# Altium integrated library ST Microcontroller 8-Bit.IntLib: 1326 symbols (part 19 of 31)
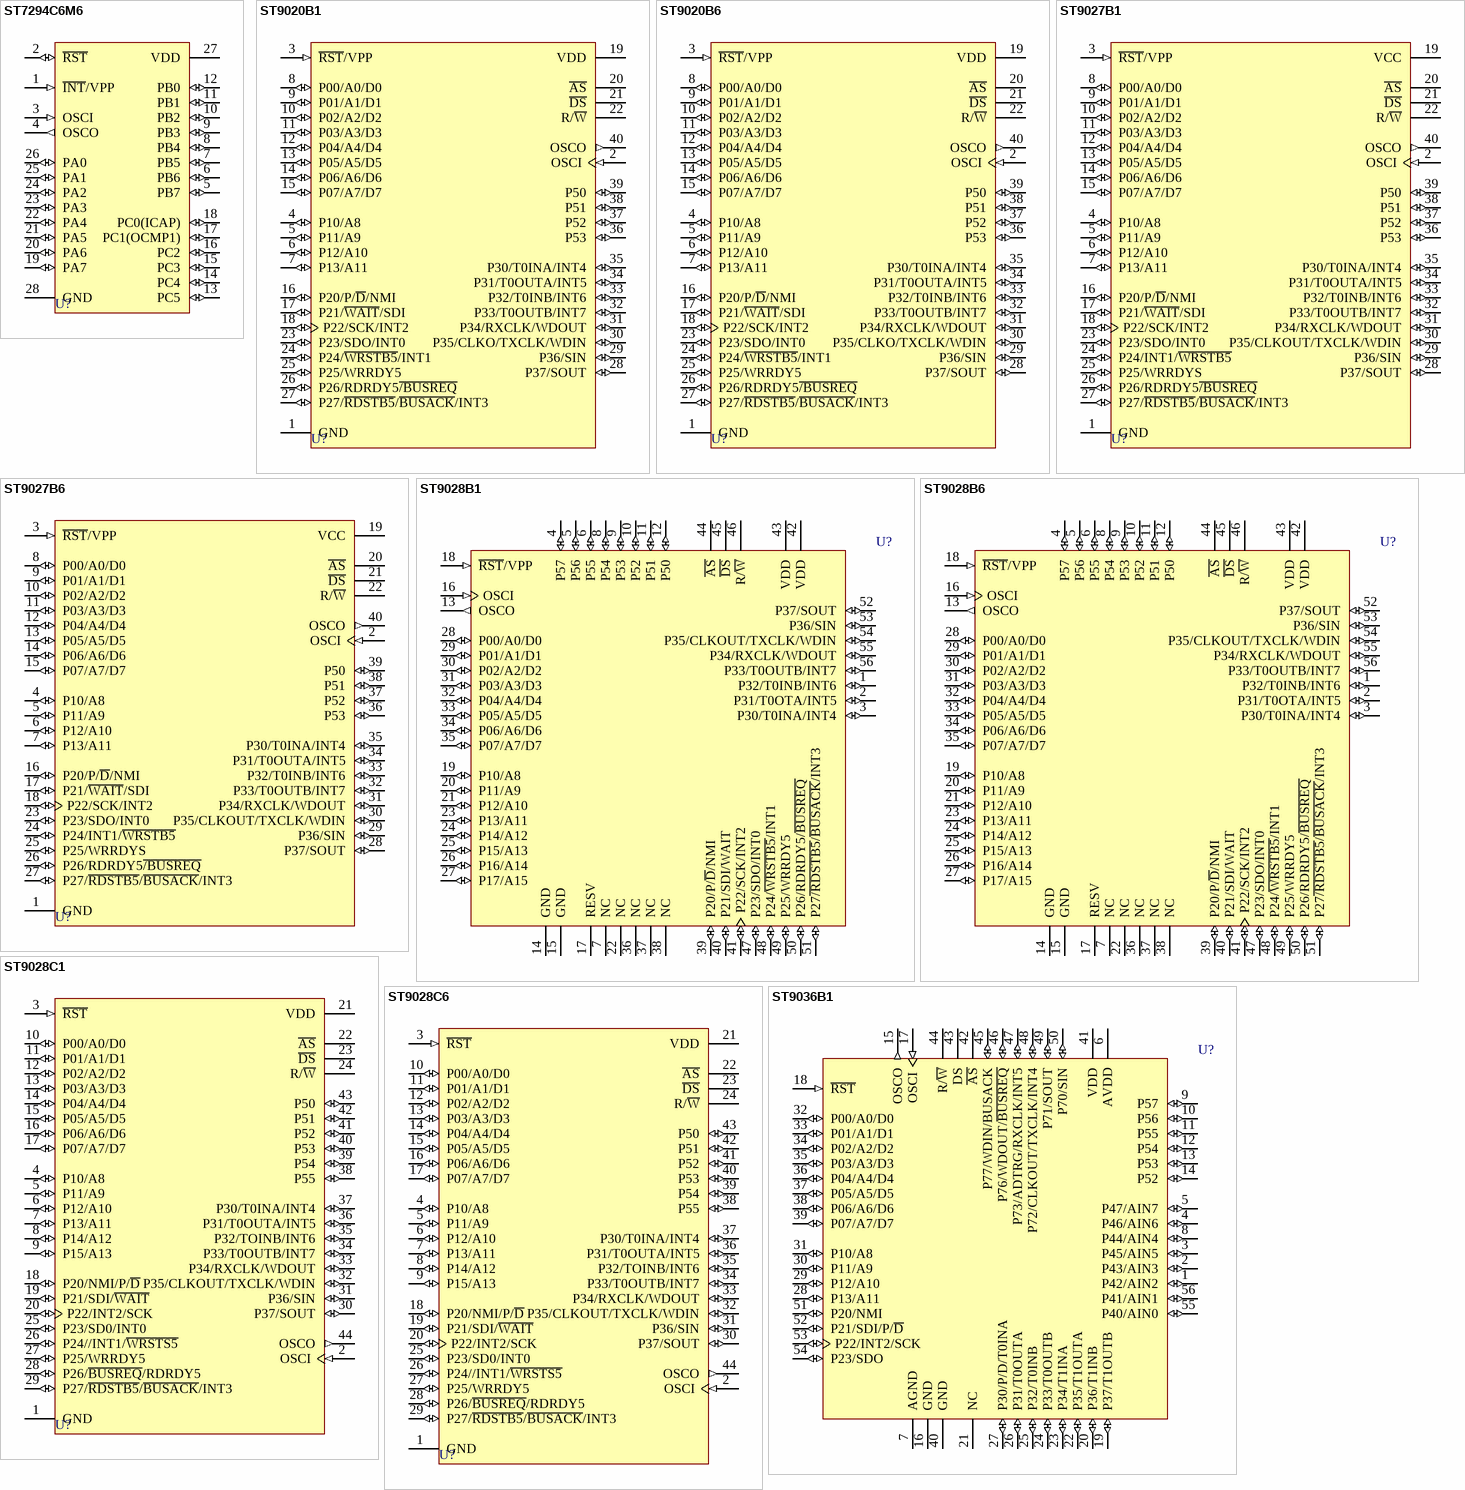
[diagram p185: symbols ST7294C6M6 to ST9036B1]

## ST9020B1
designator U?
12/16K ROM HCMOS MCU; Published: 24-Aug-2001; LatestRevisionDate: 17-Jul-2002; LatestRevisionNote: Re-released for DXP Platform.; DatasheetDocument: Jan-1995; PackageDocument: Jun-1998; PackageReference: PDIP40; Publisher: Altium Limited
footprint PDIP40 (DIP, Plastic; 40 Leads; Row Spacing 15.24 mm; Pitch 2.54 mm)
pins: 1 GND (power), 2 OSCI (in), 3 ~{RST}/VPP (in), 4 P10/A8 (io), 5 P11/A9 (io), 6 P12/A10 (io), 7 P13/A11 (io), 8 P00/A0/D0 (io), 9 P01/A1/D1 (io), 10 P02/A2/D2 (io), 11 P03/A3/D3 (io), 12 P04/A4/D4 (io), 13 P05/A5/D5 (io), 14 P06/A6/D6 (io), 15 P07/A7/D7 (io), 16 P20/P/~{D}/NMI (io), 17 P21/~{WAIT}/SDI (io), 18 P22/SCK/INT2 (io), 19 VDD (power), 20 ~{AS} (hiz), 21 ~{DS} (hiz), 22 R/~{W} (hiz), 23 P23/SDO/INT0 (io), 24 P24/~{WRSTB5}/INT1 (io), 25 P25/WRRDY5 (io), 26 P26/RDRDY5~{/BUSREQ} (io), 27 P27/~{RDSTB5}/~{BUSACK}/INT3 (io), 28 P37/SOUT (io), 29 P36/SIN (io), 30 P35/CLKO/TXCLK/WDIN (io), 31 P34/RXCLK/WDOUT (io), 32 P33/T0OUTB/INT7 (io), 33 P32/T0INB/INT6 (io), 34 P31/T0OUTA/INT5 (io), 35 P30/T0INA/INT4 (io), 36 P53 (io), 37 P52 (io), 38 P51 (io), 39 P50 (io), 40 OSCO (out)

## ST9020B6
designator U?
12/16K ROM HCMOS MCU; Published: 24-Aug-2001; LatestRevisionDate: 17-Jul-2002; LatestRevisionNote: Re-released for DXP Platform.; DatasheetDocument: Jan-1995; PackageDocument: Jun-1998; PackageReference: PDIP40; Publisher: Altium Limited
footprint PDIP40 (DIP, Plastic; 40 Leads; Row Spacing 15.24 mm; Pitch 2.54 mm)
pins: 1 GND (power), 2 OSCI (in), 3 ~{RST}/VPP (in), 4 P10/A8 (io), 5 P11/A9 (io), 6 P12/A10 (io), 7 P13/A11 (io), 8 P00/A0/D0 (io), 9 P01/A1/D1 (io), 10 P02/A2/D2 (io), 11 P03/A3/D3 (io), 12 P04/A4/D4 (io), 13 P05/A5/D5 (io), 14 P06/A6/D6 (io), 15 P07/A7/D7 (io), 16 P20/P/~{D}/NMI (io), 17 P21/~{WAIT}/SDI (io), 18 P22/SCK/INT2 (io), 19 VDD (power), 20 ~{AS} (hiz), 21 ~{DS} (hiz), 22 R/~{W} (hiz), 23 P23/SDO/INT0 (io), 24 P24/~{WRSTB5}/INT1 (io), 25 P25/WRRDY5 (io), 26 P26/RDRDY5~{/BUSREQ} (io), 27 P27/~{RDSTB5}/~{BUSACK}/INT3 (io), 28 P37/SOUT (io), 29 P36/SIN (io), 30 P35/CLKO/TXCLK/WDIN (io), 31 P34/RXCLK/WDOUT (io), 32 P33/T0OUTB/INT7 (io), 33 P32/T0INB/INT6 (io), 34 P31/T0OUTA/INT5 (io), 35 P30/T0INA/INT4 (io), 36 P53 (io), 37 P52 (io), 38 P51 (io), 39 P50 (io), 40 OSCO (out)

## ST9027B1
designator U?
16K ROM /256 RAM HCMOS MCU; Published: 24-Aug-2001; LatestRevisionDate: 17-Jul-2002; LatestRevisionNote: Re-released for DXP Platform.; DatasheetDocument: Feb-1997; PackageDocument: Jun-1998; PackageReference: PDIP40; Publisher: Altium Limited
footprint PDIP40 (DIP, Plastic; 40 Leads; Row Spacing 15.24 mm; Pitch 2.54 mm)
pins: 1 GND (power), 2 OSCI (in), 3 ~{RST}/VPP (in), 4 P10/A8 (io), 5 P11/A9 (io), 6 P12/A10 (io), 7 P13/A11 (io), 8 P00/A0/D0 (io), 9 P01/A1/D1 (io), 10 P02/A2/D2 (io), 11 P03/A3/D3 (io), 12 P04/A4/D4 (io), 13 P05/A5/D5 (io), 14 P06/A6/D6 (io), 15 P07/A7/D7 (io), 16 P20/P/~{D}/NMI (io), 17 P21/~{WAIT}/SDI (io), 18 P22/SCK/INT2 (io), 19 VCC (power), 20 ~{AS} (hiz), 21 ~{DS} (hiz), 22 R/~{W} (hiz), 23 P23/SDO/INT0 (io), 24 P24/INT1/~{WRSTB5} (io), 25 P25/WRRDYS (io), 26 P26/RDRDY5~{/BUSREQ} (io), 27 P27/~{RDSTB5}/~{BUSACK}/INT3 (io), 28 P37/SOUT (io), 29 P36/SIN (io), 30 P35/CLKOUT/TXCLK/WDIN (io), 31 P34/RXCLK/WDOUT (io), 32 P33/T0OUTB/INT7 (io), 33 P32/T0INB/INT6 (io), 34 P31/T0OUTA/INT5 (io), 35 P30/T0INA/INT4 (io), 36 P53 (io), 37 P52 (io), 38 P51 (io), 39 P50 (io), 40 OSCO (out)

## ST9027B6
designator U?
16K ROM /256 RAM HCMOS MCU; Published: 24-Aug-2001; LatestRevisionDate: 17-Jul-2002; LatestRevisionNote: Re-released for DXP Platform.; DatasheetDocument: Feb-1997; PackageDocument: Jun-1998; PackageReference: PDIP40; Publisher: Altium Limited
footprint PDIP40 (DIP, Plastic; 40 Leads; Row Spacing 15.24 mm; Pitch 2.54 mm)
pins: 1 GND (power), 2 OSCI (in), 3 ~{RST}/VPP (in), 4 P10/A8 (io), 5 P11/A9 (io), 6 P12/A10 (io), 7 P13/A11 (io), 8 P00/A0/D0 (io), 9 P01/A1/D1 (io), 10 P02/A2/D2 (io), 11 P03/A3/D3 (io), 12 P04/A4/D4 (io), 13 P05/A5/D5 (io), 14 P06/A6/D6 (io), 15 P07/A7/D7 (io), 16 P20/P/~{D}/NMI (io), 17 P21/~{WAIT}/SDI (io), 18 P22/SCK/INT2 (io), 19 VCC (power), 20 ~{AS} (hiz), 21 ~{DS} (hiz), 22 R/~{W} (hiz), 23 P23/SDO/INT0 (io), 24 P24/INT1/~{WRSTB5} (io), 25 P25/WRRDYS (io), 26 P26/RDRDY5~{/BUSREQ} (io), 27 P27/~{RDSTB5}/~{BUSACK}/INT3 (io), 28 P37/SOUT (io), 29 P36/SIN (io), 30 P35/CLKOUT/TXCLK/WDIN (io), 31 P34/RXCLK/WDOUT (io), 32 P33/T0OUTB/INT7 (io), 33 P32/T0INB/INT6 (io), 34 P31/T0OUTA/INT5 (io), 35 P30/T0INA/INT4 (io), 36 P53 (io), 37 P52 (io), 38 P51 (io), 39 P50 (io), 40 OSCO (out)

## ST9028B1
designator U?
16K ROM /256 RAM HCMOS MCU; Published: 24-Aug-2001; LatestRevisionDate: 26-May-2004; LatestRevisionNote: PCB row spacing reduced.; DatasheetDocument: Feb-1997; PackageDocument: Jan-2002; PackageReference: PSDIP56; Publisher: Altium Limited
footprint PSDIP56 (DIP, Plastic Shrink; 56 Leads; Row Spacing 15.24 mm; Pitch 1.78 mm)
pins: 1 P32/T0INB/INT6 (io), 2 P31/T0OTA/INT5 (io), 3 P30/T0INA/INT4 (io), 4 P57 (io), 5 P56 (io), 6 P55 (io), 7 NC, 8 P54 (io), 9 P53 (io), 10 P52 (io), 11 P51 (io), 12 P50 (io), 13 OSCO (out), 14 GND (power), 15 GND (power), 16 OSCI (in), 17 RESV, 18 ~{RST}/VPP (in), 19 P10/A8 (io), 20 P11/A9 (io), 21 P12/A10 (io), 22 NC, 23 P13/A11 (io), 24 P14/A12 (io), 25 P15/A13 (io), 26 P16/A14 (io), 27 P17/A15 (io), 28 P00/A0/D0 (io), 29 P01/A1/D1 (io), 30 P02/A2/D2 (io), 31 P03/A3/D3 (io), 32 P04/A4/D4 (io), 33 P05/A5/D5 (io), 34 P06/A6/D6 (io), 35 P07/A7/D7 (io), 36 NC, 37 NC, 38 NC, 39 P20/P/~{D}/NMI (io), 40 P21/SDI/WAIT (io), 41 P22/SCK/INT2 (io), 42 VDD (power), 43 VDD (power), 44 ~{AS} (hiz), 45 ~{DS} (hiz), 46 R/~{W} (hiz), 47 P23/SDO/INT0 (io), 48 P24/~{WRSTB5}/INT1 (io), 49 P25/WRRDY5 (io), 50 P26/RDRDY5/~{BUSREQ} (io), 51 P27~{/RDSTB5}/~{BUSACK}/INT3 (io), 52 P37/SOUT (io), 53 P36/SIN (io), 54 P35/CLKOUT/TXCLK/WDIN (io), 55 P34/RXCLK/WDOUT (io), 56 P33/T0OUTB/INT7 (io)

## ST9028B6
designator U?
16K ROM /256 RAM HCMOS MCU; Published: 24-Aug-2001; LatestRevisionDate: 26-May-2004; LatestRevisionNote: PCB row spacing reduced.; DatasheetDocument: Feb-1997; PackageDocument: Jan-2002; PackageReference: PSDIP56; Publisher: Altium Limited
footprint PSDIP56 (DIP, Plastic Shrink; 56 Leads; Row Spacing 15.24 mm; Pitch 1.78 mm)
pins: 1 P32/T0INB/INT6 (io), 2 P31/T0OTA/INT5 (io), 3 P30/T0INA/INT4 (io), 4 P57 (io), 5 P56 (io), 6 P55 (io), 7 NC, 8 P54 (io), 9 P53 (io), 10 P52 (io), 11 P51 (io), 12 P50 (io), 13 OSCO (out), 14 GND (power), 15 GND (power), 16 OSCI (in), 17 RESV, 18 ~{RST}/VPP (in), 19 P10/A8 (io), 20 P11/A9 (io), 21 P12/A10 (io), 22 NC, 23 P13/A11 (io), 24 P14/A12 (io), 25 P15/A13 (io), 26 P16/A14 (io), 27 P17/A15 (io), 28 P00/A0/D0 (io), 29 P01/A1/D1 (io), 30 P02/A2/D2 (io), 31 P03/A3/D3 (io), 32 P04/A4/D4 (io), 33 P05/A5/D5 (io), 34 P06/A6/D6 (io), 35 P07/A7/D7 (io), 36 NC, 37 NC, 38 NC, 39 P20/P/~{D}/NMI (io), 40 P21/SDI/WAIT (io), 41 P22/SCK/INT2 (io), 42 VDD (power), 43 VDD (power), 44 ~{AS} (hiz), 45 ~{DS} (hiz), 46 R/~{W} (hiz), 47 P23/SDO/INT0 (io), 48 P24/~{WRSTB5}/INT1 (io), 49 P25/WRRDY5 (io), 50 P26/RDRDY5/~{BUSREQ} (io), 51 P27~{/RDSTB5}/~{BUSACK}/INT3 (io), 52 P37/SOUT (io), 53 P36/SIN (io), 54 P35/CLKOUT/TXCLK/WDIN (io), 55 P34/RXCLK/WDOUT (io), 56 P33/T0OUTB/INT7 (io)

## ST9028C1
designator U?
16K ROM /256 RAM HCMOS MCU; Published: 24-Aug-2001; LatestRevisionDate: 17-Jul-2002; LatestRevisionNote: Re-released for DXP Platform.; DatasheetDocument: Feb-1997; PackageDocument: Jun-1998; PackageReference: PLCC44; Publisher: Altium Limited; Code_IPC: PLCC-44
footprint PLCC44 (Leaded Chip Carrier; 44 Leads; Body 16.5 x 16.5 mm)
pins: 1 GND (power), 2 OSCI (in), 3 ~{RST} (in), 4 P10/A8 (io), 5 P11/A9 (io), 6 P12/A10 (io), 7 P13/A11 (io), 8 P14/A12 (io), 9 P15/A13 (io), 10 P00/A0/D0 (io), 11 P01/A1/D1 (io), 12 P02/A2/D2 (io), 13 P03/A3/D3 (io), 14 P04/A4/D4 (io), 15 P05/A5/D5 (io), 16 P06/A6/D6 (io), 17 P07/A7/D7 (io), 18 P20/NMI/P/~{D} (io), 19 P21/SDI/~{WAIT} (io), 20 P22/INT2/SCK (io), 21 VDD (power), 22 ~{AS} (hiz), 23 ~{DS} (hiz), 24 R/~{W} (hiz), 25 P23/SD0/INT0 (io), 26 P24//INT1/~{WRSTS5} (io), 27 P25/WRRDY5 (io), 28 P26/~{BUSREQ}/RDRDY5 (io), 29 P27/~{RDSTB5}/~{BUSACK}/INT3 (io), 30 P37/SOUT (io), 31 P36/SIN (io), 32 P35/CLKOUT/TXCLK/WDIN (io), 33 P34/RXCLK/WDOUT (io), 34 P33/T0OUTB/INT7 (io), 35 P32/TOINB/INT6 (io), 36 P31/T0OUTA/INT5 (io), 37 P30/T0INA/INT4 (io), 38 P55 (io), 39 P54 (io), 40 P53 (io), 41 P52 (io), 42 P51 (io), 43 P50 (io), 44 OSCO (out)

## ST9028C6
designator U?
16K ROM /256 RAM HCMOS MCU; Published: 24-Aug-2001; LatestRevisionDate: 17-Jul-2002; LatestRevisionNote: Re-released for DXP Platform.; DatasheetDocument: Feb-1997; PackageDocument: Jun-1998; PackageReference: PLCC44; Publisher: Altium Limited; Code_IPC: PLCC-44
footprint PLCC44 (Leaded Chip Carrier; 44 Leads; Body 16.5 x 16.5 mm)
pins: 1 GND (power), 2 OSCI (in), 3 ~{RST} (in), 4 P10/A8 (io), 5 P11/A9 (io), 6 P12/A10 (io), 7 P13/A11 (io), 8 P14/A12 (io), 9 P15/A13 (io), 10 P00/A0/D0 (io), 11 P01/A1/D1 (io), 12 P02/A2/D2 (io), 13 P03/A3/D3 (io), 14 P04/A4/D4 (io), 15 P05/A5/D5 (io), 16 P06/A6/D6 (io), 17 P07/A7/D7 (io), 18 P20/NMI/P/~{D} (io), 19 P21/SDI/~{WAIT} (io), 20 P22/INT2/SCK (io), 21 VDD (power), 22 ~{AS} (hiz), 23 ~{DS} (hiz), 24 R/~{W} (hiz), 25 P23/SD0/INT0 (io), 26 P24//INT1/~{WRSTS5} (io), 27 P25/WRRDY5 (io), 28 P26/~{BUSREQ}/RDRDY5 (io), 29 P27/~{RDSTB5}/~{BUSACK}/INT3 (io), 30 P37/SOUT (io), 31 P36/SIN (io), 32 P35/CLKOUT/TXCLK/WDIN (io), 33 P34/RXCLK/WDOUT (io), 34 P33/T0OUTB/INT7 (io), 35 P32/TOINB/INT6 (io), 36 P31/T0OUTA/INT5 (io), 37 P30/T0INA/INT4 (io), 38 P55 (io), 39 P54 (io), 40 P53 (io), 41 P52 (io), 42 P51 (io), 43 P50 (io), 44 OSCO (out)

## ST9036B1
designator U?
16K ROM HCMOS MCU with RAM and A/D Converter; Published: 24-Aug-2001; LatestRevisionDate: 26-May-2004; LatestRevisionNote: PCB row spacing reduced.; DatasheetDocument: Mar-1994; PackageDocument: Jan-2002; PackageReference: PSDIP56; Publisher: Altium Limited
footprint PSDIP56 (DIP, Plastic Shrink; 56 Leads; Row Spacing 15.24 mm; Pitch 1.78 mm)
pins: 1 P42/AIN2 (io), 2 P43/AIN3 (io), 3 P45/AIN5 (io), 4 P46/AIN6 (io), 5 P47/AIN7 (io), 6 AVDD (power), 7 AGND (power), 8 P44/AIN4 (io), 9 P57 (io), 10 P56 (io), 11 P55 (io), 12 P54 (io), 13 P53 (io), 14 P52 (io), 15 OSCO (out), 16 GND (power), 17 OSCI (in), 18 ~{RST} (in), 19 P37/T1OUTB (io), 20 P36/T1INB (io), 21 NC, 22 P35/T1OUTA (io), 23 P34/T1INA (io), 24 P33/T0OUTB (io), 25 P32/T0INB (io), 26 P31/T0OUTA (io), 27 P30/P/D/T0INA (io), 28 P13/A11 (io), 29 P12/A10 (io), 30 P11/A9 (io), 31 P10/A8 (io), 32 P00/A0/D0 (io), 33 P01/A1/D1 (io), 34 P02/A2/D2 (io), 35 P03/A3/D3 (io), 36 P04/A4/D4 (io), 37 P05/A5/D5 (io), 38 P06/A6/D6 (io), 39 P07/A7/D7 (io), 40 GND (power), 41 VDD (power), 42 ~{AS} (hiz), 43 DS (hiz), 44 R/~{W} (hiz), 45 P77/WDIN/BUSACK (io), 46 P76/WDOUT/~{BUSREQ} (io), 47 P73/ADTRG/RXCLK/INT5 (io), 48 P72/CLKOUT/TXCLK/INT4 (io), 49 P71/SOUT (io), 50 P70/SIN (io), 51 P20/NMI (io), 52 P21/SDI/P/~{D} (io), 53 P22/INT2/SCK (io), 54 P23/SDO (io), 55 P40/AIN0 (io), 56 P41/AIN1 (io)

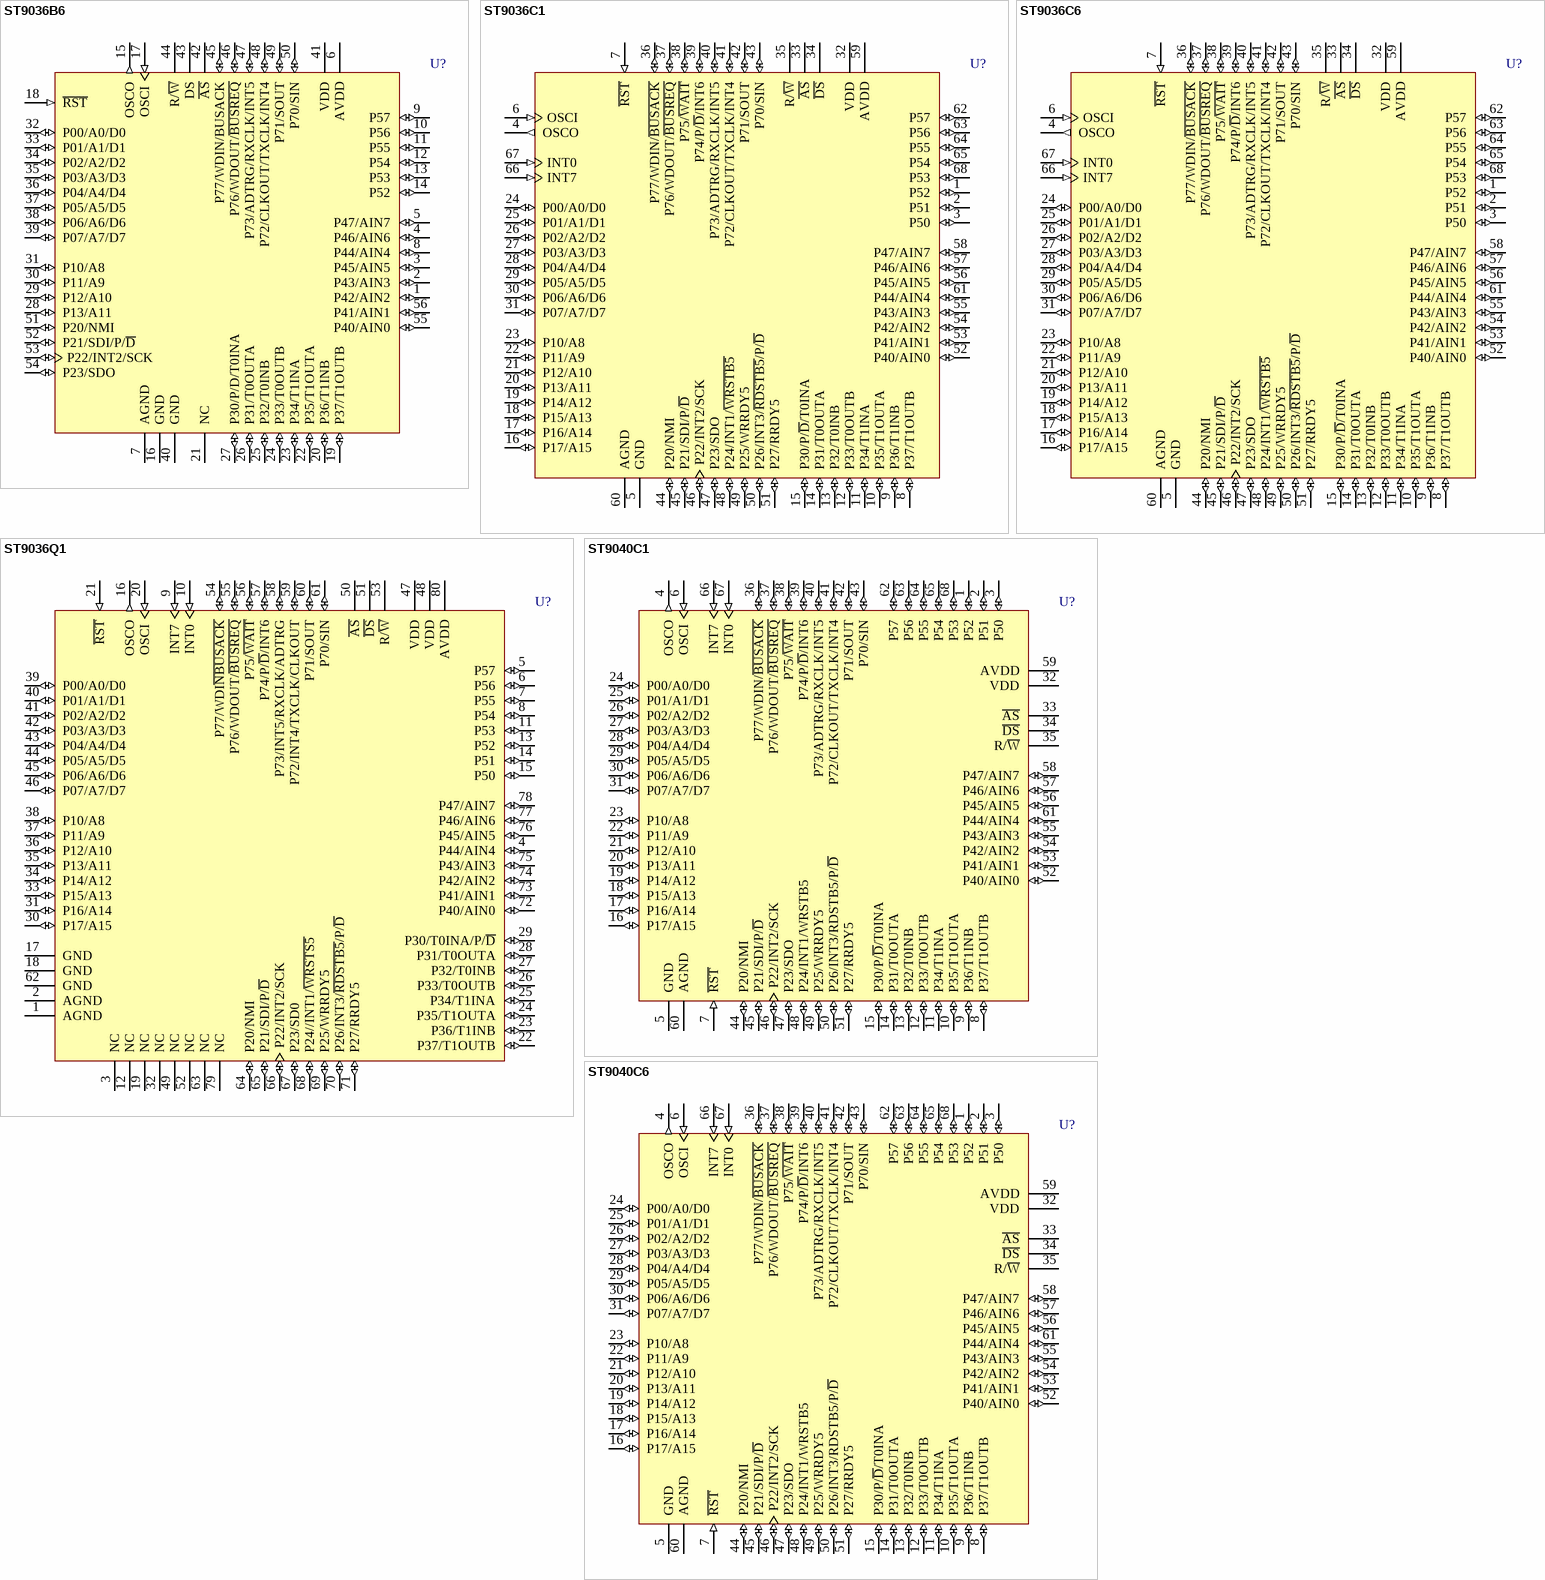
[diagram p94: symbols ST9036B6 to ST9040C6]

## ST9036B6
designator U?
16K ROM HCMOS MCU with RAM and A/D Converter; Published: 24-Aug-2001; LatestRevisionDate: 26-May-2004; LatestRevisionNote: PCB row spacing reduced.; DatasheetDocument: Mar-1994; PackageDocument: Jan-2002; PackageReference: PSDIP56; Publisher: Altium Limited
footprint PSDIP56 (DIP, Plastic Shrink; 56 Leads; Row Spacing 15.24 mm; Pitch 1.78 mm)
pins: 1 P42/AIN2 (io), 2 P43/AIN3 (io), 3 P45/AIN5 (io), 4 P46/AIN6 (io), 5 P47/AIN7 (io), 6 AVDD (power), 7 AGND (power), 8 P44/AIN4 (io), 9 P57 (io), 10 P56 (io), 11 P55 (io), 12 P54 (io), 13 P53 (io), 14 P52 (io), 15 OSCO (out), 16 GND (power), 17 OSCI (in), 18 ~{RST} (in), 19 P37/T1OUTB (io), 20 P36/T1INB (io), 21 NC, 22 P35/T1OUTA (io), 23 P34/T1INA (io), 24 P33/T0OUTB (io), 25 P32/T0INB (io), 26 P31/T0OUTA (io), 27 P30/P/D/T0INA (io), 28 P13/A11 (io), 29 P12/A10 (io), 30 P11/A9 (io), 31 P10/A8 (io), 32 P00/A0/D0 (io), 33 P01/A1/D1 (io), 34 P02/A2/D2 (io), 35 P03/A3/D3 (io), 36 P04/A4/D4 (io), 37 P05/A5/D5 (io), 38 P06/A6/D6 (io), 39 P07/A7/D7 (io), 40 GND (power), 41 VDD (power), 42 ~{AS} (hiz), 43 DS (hiz), 44 R/~{W} (hiz), 45 P77/WDIN/BUSACK (io), 46 P76/WDOUT/~{BUSREQ} (io), 47 P73/ADTRG/RXCLK/INT5 (io), 48 P72/CLKOUT/TXCLK/INT4 (io), 49 P71/SOUT (io), 50 P70/SIN (io), 51 P20/NMI (io), 52 P21/SDI/P/~{D} (io), 53 P22/INT2/SCK (io), 54 P23/SDO (io), 55 P40/AIN0 (io), 56 P41/AIN1 (io)

## ST9036C1
designator U?
16K ROM HCMOS MCU with RAM and A/D Converter; Published: 24-Aug-2001; LatestRevisionDate: 17-Jul-2002; LatestRevisionNote: Re-released for DXP Platform.; DatasheetDocument: Mar-1994; PackageReference: PLCC68A; Publisher: Altium Limited; Code_IPC: PLCC-68
footprint PLCC68A (Leaded Chip Carrier; 68 Leads; Body 24.2 x 24.2 mm)
pins: 1 P52 (io), 2 P51 (io), 3 P50 (io), 4 OSCO (out), 5 GND (power), 6 OSCI (in), 7 ~{RST} (in), 8 P37/T1OUTB (io), 9 P36/T1INB (io), 10 P35/T1OUTA (io), 11 P34/T1INA (io), 12 P33/T0OUTB (io), 13 P32/T0INB (io), 14 P31/T0OUTA (io), 15 P30/P/~{D}/T0INA (io), 16 P17/A15 (io), 17 P16/A14 (io), 18 P15/A13 (io), 19 P14/A12 (io), 20 P13/A11 (io), 21 P12/A10 (io), 22 P11/A9 (io), 23 P10/A8 (io), 24 P00/A0/D0 (io), 25 P01/A1/D1 (io), 26 P02/A2/D2 (io), 27 P03/A3/D3 (io), 28 P04/A4/D4 (io), 29 P05/A5/D5 (io), 30 P06/A6/D6 (io), 31 P07/A7/D7 (io), 32 VDD (power), 33 ~{AS} (hiz), 34 ~{DS} (hiz), 35 R/~{W} (hiz), 36 P77/WDIN/~{BUSACK} (io), 37 P76/WDOUT/~{BUSREQ} (io), 38 P75/~{WAIT} (io), 39 P74/P/~{D}/INT6 (io), 40 P73/ADTRG/RXCLK/INT5 (io), 41 P72/CLKOUT/TXCLK/INT4 (io), 42 P71/SOUT (io), 43 P70/SIN (io), 44 P20/NMI (io), 45 P21/SDI/P/~{D} (io), 46 P22/INT2/SCK (io), 47 P23/SDO (io), 48 P24/INT1/~{WRSTB5} (io), 49 P25/WRRDY5 (io), 50 P26/INT3/~{RDSTB5}/P/~{D} (io), 51 P27/RRDY5 (io), 52 P40/AIN0 (io), 53 P41/AIN1 (io), 54 P42/AIN2 (io), 55 P43/AIN3 (io), 56 P45/AIN5 (io), 57 P46/AIN6 (io), 58 P47/AIN7 (io), 59 AVDD (power), 60 AGND (power), 61 P44/AIN4 (io), 62 P57 (io), 63 P56 (io), 64 P55 (io), 65 P54 (io), 66 INT7 (in), 67 INT0 (in), 68 P53 (io)

## ST9036C6
designator U?
16K ROM HCMOS MCU with RAM and A/D Converter; Published: 24-Aug-2001; LatestRevisionDate: 17-Jul-2002; LatestRevisionNote: Re-released for DXP Platform.; DatasheetDocument: Mar-1994; PackageReference: PLCC68A; Publisher: Altium Limited; Code_IPC: PLCC-68
footprint PLCC68A (Leaded Chip Carrier; 68 Leads; Body 24.2 x 24.2 mm)
pins: 1 P52 (io), 2 P51 (io), 3 P50 (io), 4 OSCO (out), 5 GND (power), 6 OSCI (in), 7 ~{RST} (in), 8 P37/T1OUTB (io), 9 P36/T1INB (io), 10 P35/T1OUTA (io), 11 P34/T1INA (io), 12 P33/T0OUTB (io), 13 P32/T0INB (io), 14 P31/T0OUTA (io), 15 P30/P/~{D}/T0INA (io), 16 P17/A15 (io), 17 P16/A14 (io), 18 P15/A13 (io), 19 P14/A12 (io), 20 P13/A11 (io), 21 P12/A10 (io), 22 P11/A9 (io), 23 P10/A8 (io), 24 P00/A0/D0 (io), 25 P01/A1/D1 (io), 26 P02/A2/D2 (io), 27 P03/A3/D3 (io), 28 P04/A4/D4 (io), 29 P05/A5/D5 (io), 30 P06/A6/D6 (io), 31 P07/A7/D7 (io), 32 VDD (power), 33 ~{AS} (hiz), 34 ~{DS} (hiz), 35 R/~{W} (hiz), 36 P77/WDIN/~{BUSACK} (io), 37 P76/WDOUT/~{BUSREQ} (io), 38 P75/~{WAIT} (io), 39 P74/P/~{D}/INT6 (io), 40 P73/ADTRG/RXCLK/INT5 (io), 41 P72/CLKOUT/TXCLK/INT4 (io), 42 P71/SOUT (io), 43 P70/SIN (io), 44 P20/NMI (io), 45 P21/SDI/P/~{D} (io), 46 P22/INT2/SCK (io), 47 P23/SDO (io), 48 P24/INT1/~{WRSTB5} (io), 49 P25/WRRDY5 (io), 50 P26/INT3/~{RDSTB5}/P/~{D} (io), 51 P27/RRDY5 (io), 52 P40/AIN0 (io), 53 P41/AIN1 (io), 54 P42/AIN2 (io), 55 P43/AIN3 (io), 56 P45/AIN5 (io), 57 P46/AIN6 (io), 58 P47/AIN7 (io), 59 AVDD (power), 60 AGND (power), 61 P44/AIN4 (io), 62 P57 (io), 63 P56 (io), 64 P55 (io), 65 P54 (io), 66 INT7 (in), 67 INT0 (in), 68 P53 (io)

## ST9036Q1
designator U?
16K ROM HCMOS MCU with RAM and A/D Converter; Published: 24-Aug-2001; LatestRevisionDate: 26-May-2004; LatestRevisionNote: PCB pad length adjusted to match with IPC-SM-782.; DatasheetDocument: Mar-1994; PackageDocument: Jul-2001; PackageReference: PQFP80; Publisher: Altium Limited; Code_IPC: QFP-14X20-80
footprint PQFP80 (QFP, Plastic; 80 Leads; Body 14 x 20 mm; Pitch 0.8 mm)
pins: 1 AGND (power), 2 AGND (power), 3 NC, 4 P44/AIN4 (io), 5 P57 (io), 6 P56 (io), 7 P55 (io), 8 P54 (io), 9 INT7 (in), 10 INT0 (in), 11 P53 (io), 12 NC, 13 P52 (io), 14 P51 (io), 15 P50 (io), 16 OSCO (out), 17 GND (power), 18 GND (power), 19 NC, 20 OSCI (in), 21 ~{RST} (in), 22 P37/T1OUTB (io), 23 P36/T1INB (io), 24 P35/T1OUTA (io), 25 P34/T1INA (io), 26 P33/T0OUTB (io), 27 P32/T0INB (io), 28 P31/T0OUTA (io), 29 P30/T0INA/P/~{D} (io), 30 P17/A15 (io), 31 P16/A14 (io), 32 NC, 33 P15/A13 (io), 34 P14/A12 (io), 35 P13/A11 (io), 36 P12/A10 (io), 37 P11/A9 (io), 38 P10/A8 (io), 39 P00/A0/D0 (io), 40 P01/A1/D1 (io), 41 P02/A2/D2 (io), 42 P03/A3/D3 (io), 43 P04/A4/D4 (io), 44 P05/A5/D5 (io), 45 P06/A6/D6 (io), 46 P07/A7/D7 (io), 47 VDD (power), 48 VDD (power), 49 NC, 50 ~{AS} (hiz), 51 ~{DS} (hiz), 52 NC, 53 R/~{W} (hiz), 54 P77/WDI~{NBUSACK} (io), 55 P76/WDOUT/~{BUSREQ} (io), 56 P75/~{WAIT} (io), 57 P74/P/~{D}/INT6 (io), 58 P73/INT5/RXCLK/ADTRG (io), 59 P72/INT4/TXCLK/CLKOUT (io), 60 P71/SOUT (io), 61 P70/SIN (io), 62 GND (power), 63 NC, 64 P20/NMI (io), 65 P21/SDI/P/~{D} (io), 66 P22/INT2/SCK (io), 67 P23/SD0 (io), 68 P24//INT1/~{WRSTS5} (io), 69 P25/WRRDY5 (io), 70 P26/INT3/~{RDSTB5}/P/~{D} (io), 71 P27/RRDY5 (io), 72 P40/AIN0 (io), 73 P41/AIN1 (io), 74 P42/AIN2 (io), 75 P43/AIN3 (io), 76 P45/AIN5 (io), 77 P46/AIN6 (io), 78 P47/AIN7 (io), 79 NC, 80 AVDD (power)

## ST9040C1
designator U?
16K ROM HCMOS MCU with EEPROM, RAM & A/D Converter; Published: 24-Aug-2001; LatestRevisionDate: 17-Jul-2002; LatestRevisionNote: Re-released for DXP Platform.; DatasheetDocument: Feb-1997; PackageReference: PLCC68A; Publisher: Altium Limited; Code_IPC: PLCC-68
footprint PLCC68A (Leaded Chip Carrier; 68 Leads; Body 24.2 x 24.2 mm)
pins: 1 P52 (io), 2 P51 (io), 3 P50 (io), 4 OSCO (out), 5 GND (power), 6 OSCI (in), 7 ~{RST} (in), 8 P37/T1OUTB (io), 9 P36/T1INB (io), 10 P35/T1OUTA (io), 11 P34/T1INA (io), 12 P33/T0OUTB (io), 13 P32/T0INB (io), 14 P31/T0OUTA (io), 15 P30/P/~{D}/T0INA (io), 16 P17/A15 (io), 17 P16/A14 (io), 18 P15/A13 (io), 19 P14/A12 (io), 20 P13/A11 (io), 21 P12/A10 (io), 22 P11/A9 (io), 23 P10/A8 (io), 24 P00/A0/D0 (io), 25 P01/A1/D1 (io), 26 P02/A2/D2 (io), 27 P03/A3/D3 (io), 28 P04/A4/D4 (io), 29 P05/A5/D5 (io), 30 P06/A6/D6 (io), 31 P07/A7/D7 (io), 32 VDD (power), 33 ~{AS} (hiz), 34 ~{DS} (hiz), 35 R/~{W} (hiz), 36 P77/WDIN/~{BUSACK} (io), 37 P76/WDOUT/~{BUSREQ} (io), 38 P75/~{WAIT} (io), 39 P74/P/~{D}/INT6 (io), 40 P73/ADTRG/RXCLK/INT5 (io), 41 P72/CLKOUT/TXCLK/INT4 (io), 42 P71/SOUT (io), 43 P70/SIN (io), 44 P20/NMI (io), 45 P21/SDI/P/~{D} (io), 46 P22/INT2/SCK (io), 47 P23/SDO (io), 48 P24/INT1/WRSTB5 (io), 49 P25/WRRDY5 (io), 50 P26/INT3/RDSTB5/P/~{D} (io), 51 P27/RRDY5 (io), 52 P40/AIN0 (io), 53 P41/AIN1 (io), 54 P42/AIN2 (io), 55 P43/AIN3 (io), 56 P45/AIN5 (io), 57 P46/AIN6 (io), 58 P47/AIN7 (io), 59 AVDD (power), 60 AGND (power), 61 P44/AIN4 (io), 62 P57 (io), 63 P56 (io), 64 P55 (io), 65 P54 (io), 66 INT7 (in), 67 INT0 (in), 68 P53 (io)

## ST9040C6
designator U?
16K ROM HCMOS MCU with EEPROM, RAM & A/D Converter; Published: 24-Aug-2001; LatestRevisionDate: 17-Jul-2002; LatestRevisionNote: Re-released for DXP Platform.; DatasheetDocument: Feb-1997; PackageReference: PLCC68A; Publisher: Altium Limited; Code_IPC: PLCC-68
footprint PLCC68A (Leaded Chip Carrier; 68 Leads; Body 24.2 x 24.2 mm)
pins: 1 P52 (io), 2 P51 (io), 3 P50 (io), 4 OSCO (out), 5 GND (power), 6 OSCI (in), 7 ~{RST} (in), 8 P37/T1OUTB (io), 9 P36/T1INB (io), 10 P35/T1OUTA (io), 11 P34/T1INA (io), 12 P33/T0OUTB (io), 13 P32/T0INB (io), 14 P31/T0OUTA (io), 15 P30/P/~{D}/T0INA (io), 16 P17/A15 (io), 17 P16/A14 (io), 18 P15/A13 (io), 19 P14/A12 (io), 20 P13/A11 (io), 21 P12/A10 (io), 22 P11/A9 (io), 23 P10/A8 (io), 24 P00/A0/D0 (io), 25 P01/A1/D1 (io), 26 P02/A2/D2 (io), 27 P03/A3/D3 (io), 28 P04/A4/D4 (io), 29 P05/A5/D5 (io), 30 P06/A6/D6 (io), 31 P07/A7/D7 (io), 32 VDD (power), 33 ~{AS} (hiz), 34 ~{DS} (hiz), 35 R/~{W} (hiz), 36 P77/WDIN/~{BUSACK} (io), 37 P76/WDOUT/~{BUSREQ} (io), 38 P75/~{WAIT} (io), 39 P74/P/~{D}/INT6 (io), 40 P73/ADTRG/RXCLK/INT5 (io), 41 P72/CLKOUT/TXCLK/INT4 (io), 42 P71/SOUT (io), 43 P70/SIN (io), 44 P20/NMI (io), 45 P21/SDI/P/~{D} (io), 46 P22/INT2/SCK (io), 47 P23/SDO (io), 48 P24/INT1/WRSTB5 (io), 49 P25/WRRDY5 (io), 50 P26/INT3/RDSTB5/P/~{D} (io), 51 P27/RRDY5 (io), 52 P40/AIN0 (io), 53 P41/AIN1 (io), 54 P42/AIN2 (io), 55 P43/AIN3 (io), 56 P45/AIN5 (io), 57 P46/AIN6 (io), 58 P47/AIN7 (io), 59 AVDD (power), 60 AGND (power), 61 P44/AIN4 (io), 62 P57 (io), 63 P56 (io), 64 P55 (io), 65 P54 (io), 66 INT7 (in), 67 INT0 (in), 68 P53 (io)

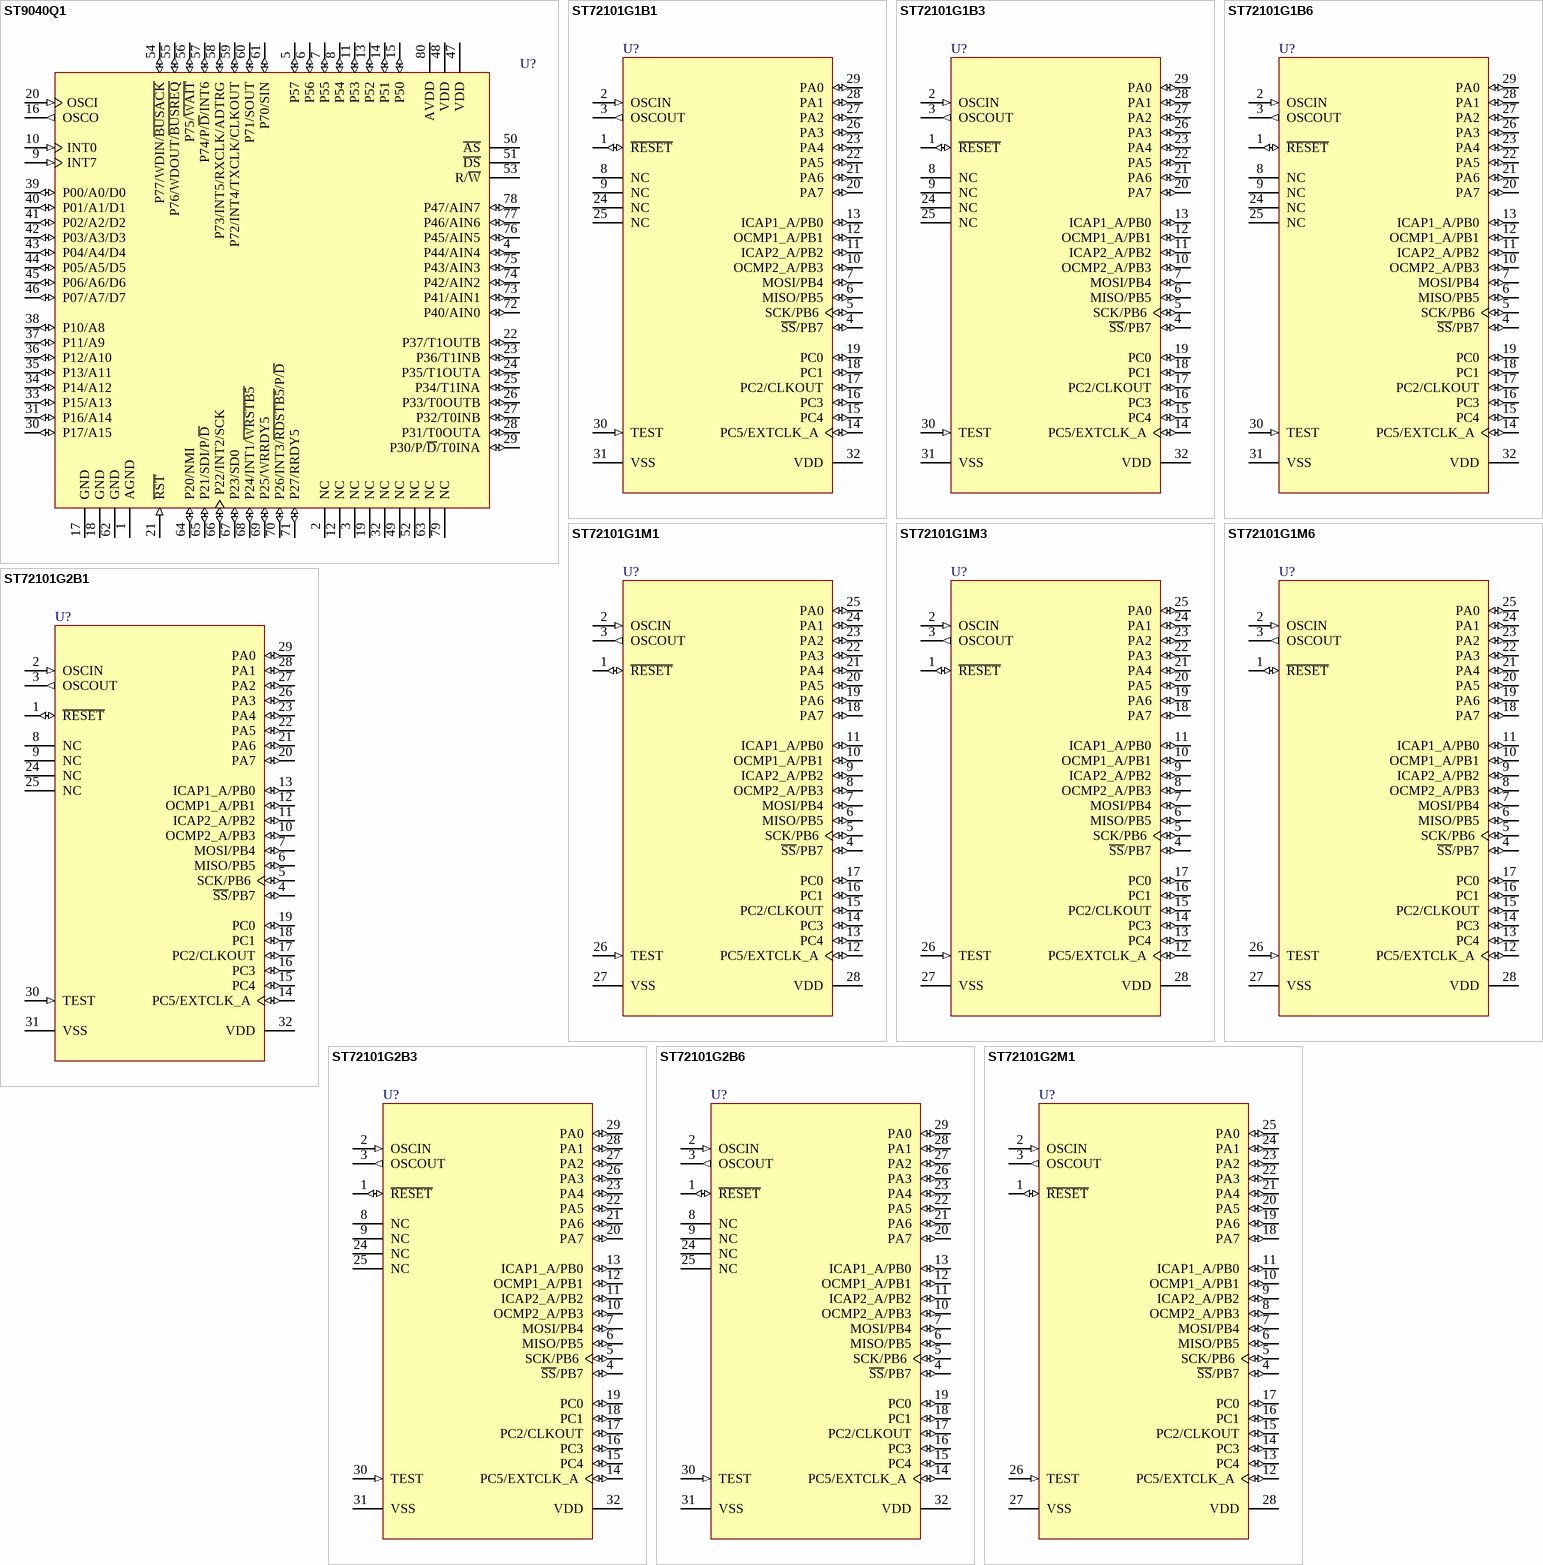
[diagram p95: symbols ST9040Q1 to ST72101G2M1]

## ST9040Q1
designator U?
16K ROM HCMOS MCU with EEPROM, RAM & A/D Converter; Published: 24-Aug-2001; LatestRevisionDate: 26-May-2004; LatestRevisionNote: PCB pad length adjusted to match with IPC-SM-782.; DatasheetDocument: Feb-1997; PackageDocument: Jul-2001; PackageReference: PQFP80; Publisher: Altium Limited; Code_IPC: QFP-14X20-80
footprint PQFP80 (QFP, Plastic; 80 Leads; Body 14 x 20 mm; Pitch 0.8 mm)
pins: 1 AGND (power), 2 NC, 3 NC, 4 P44/AIN4 (io), 5 P57 (io), 6 P56 (io), 7 P55 (io), 8 P54 (io), 9 INT7 (in), 10 INT0 (in), 11 P53 (io), 12 NC, 13 P52 (io), 14 P51 (io), 15 P50 (io), 16 OSCO (out), 17 GND (power), 18 GND (power), 19 NC, 20 OSCI (in), 21 ~{RST} (in), 22 P37/T1OUTB (io), 23 P36/T1INB (io), 24 P35/T1OUTA (io), 25 P34/T1INA (io), 26 P33/T0OUTB (io), 27 P32/T0INB (io), 28 P31/T0OUTA (io), 29 P30/P/~{D}/T0INA (io), 30 P17/A15 (io), 31 P16/A14 (io), 32 NC, 33 P15/A13 (io), 34 P14/A12 (io), 35 P13/A11 (io), 36 P12/A10 (io), 37 P11/A9 (io), 38 P10/A8 (io), 39 P00/A0/D0 (io), 40 P01/A1/D1 (io), 41 P02/A2/D2 (io), 42 P03/A3/D3 (io), 43 P04/A4/D4 (io), 44 P05/A5/D5 (io), 45 P06/A6/D6 (io), 46 P07/A7/D7 (io), 47 VDD (power), 48 VDD (power), 49 NC, 50 ~{AS} (hiz), 51 ~{DS} (hiz), 52 NC, 53 R/~{W} (hiz), 54 P77/WDIN/~{BUSACK} (io), 55 P76/WDOUT/~{BUSREQ} (io), 56 P75/~{WAIT} (io), 57 P74/P/~{D}/INT6 (io), 58 P73/INT5/RXCLK/ADTRG (io), 59 P72/INT4/TXCLK/CLKOUT (io), 60 P71/SOUT (io), 61 P70/SIN (io), 62 GND (power), 63 NC, 64 P20/NMI (io), 65 P21/SDI/P/~{D} (io), 66 P22/INT2/SCK (io), 67 P23/SD0 (io), 68 P24/INT1/~{WRSTB5} (io), 69 P25/WRRDY5 (io), 70 P26/INT3/~{RDSTB5}/P/~{D} (io), 71 P27/RRDY5 (io), 72 P40/AIN0 (io), 73 P41/AIN1 (io), 74 P42/AIN2 (io), 75 P43/AIN3 (io), 76 P45/AIN5 (io), 77 P46/AIN6 (io), 78 P47/AIN7 (io), 79 NC, 80 AVDD (power)

## ST72101G1B1
designator U?
8-Bit 4k ROM MCU with 256b RAM, WDG, SPI and One Timer, 32-Pin PDIP, Standard; PackageDocument: rev1.7, Oct-2001; Published: 26-May-2004; DatasheetDocument: rev1.8, May-2001; PackageReference: PSDIP32; Publisher: Altium Limited
footprint PSDIP32 (DIP, Plastic Shrink; 32 Leads; Row Spacing 10.16 mm; Pitch 1.78 mm)
pins: 1 ~{RESET} (io), 2 OSCIN (in), 3 OSCOUT (out), 4 ~{SS}/PB7 (io), 5 SCK/PB6 (io), 6 MISO/PB5 (io), 7 MOSI/PB4 (io), 8 NC, 9 NC, 10 OCMP2_A/PB3 (io), 11 ICAP2_A/PB2 (io), 12 OCMP1_A/PB1 (io), 13 ICAP1_A/PB0 (io), 14 PC5/EXTCLK_A (io), 15 PC4 (io), 16 PC3 (io), 17 PC2/CLKOUT (io), 18 PC1 (io), 19 PC0 (io), 20 PA7 (io), 21 PA6 (io), 22 PA5 (io), 23 PA4 (io), 24 NC, 25 NC, 26 PA3 (io), 27 PA2 (io), 28 PA1 (io), 29 PA0 (io), 30 TEST (in), 31 VSS (power), 32 VDD (power)

## ST72101G1B3
designator U?
8-Bit 4k ROM MCU with 256b RAM, WDG, SPI and One Timer, 32-Pin PDIP, Automotive; PackageDocument: rev1.7, Oct-2001; Published: 26-May-2004; DatasheetDocument: rev1.8, May-2001; PackageReference: PSDIP32; Publisher: Altium Limited
footprint PSDIP32 (DIP, Plastic Shrink; 32 Leads; Row Spacing 10.16 mm; Pitch 1.78 mm)
pins: 1 ~{RESET} (io), 2 OSCIN (in), 3 OSCOUT (out), 4 ~{SS}/PB7 (io), 5 SCK/PB6 (io), 6 MISO/PB5 (io), 7 MOSI/PB4 (io), 8 NC, 9 NC, 10 OCMP2_A/PB3 (io), 11 ICAP2_A/PB2 (io), 12 OCMP1_A/PB1 (io), 13 ICAP1_A/PB0 (io), 14 PC5/EXTCLK_A (io), 15 PC4 (io), 16 PC3 (io), 17 PC2/CLKOUT (io), 18 PC1 (io), 19 PC0 (io), 20 PA7 (io), 21 PA6 (io), 22 PA5 (io), 23 PA4 (io), 24 NC, 25 NC, 26 PA3 (io), 27 PA2 (io), 28 PA1 (io), 29 PA0 (io), 30 TEST (in), 31 VSS (power), 32 VDD (power)

## ST72101G1B6
designator U?
8-Bit 4k ROM MCU with 256b RAM, WDG, SPI and One Timer, 32-Pin PDIP, Industrial; PackageDocument: rev1.7, Oct-2001; Published: 26-May-2004; DatasheetDocument: rev1.8, May-2001; PackageReference: PSDIP32; Publisher: Altium Limited
footprint PSDIP32 (DIP, Plastic Shrink; 32 Leads; Row Spacing 10.16 mm; Pitch 1.78 mm)
pins: 1 ~{RESET} (io), 2 OSCIN (in), 3 OSCOUT (out), 4 ~{SS}/PB7 (io), 5 SCK/PB6 (io), 6 MISO/PB5 (io), 7 MOSI/PB4 (io), 8 NC, 9 NC, 10 OCMP2_A/PB3 (io), 11 ICAP2_A/PB2 (io), 12 OCMP1_A/PB1 (io), 13 ICAP1_A/PB0 (io), 14 PC5/EXTCLK_A (io), 15 PC4 (io), 16 PC3 (io), 17 PC2/CLKOUT (io), 18 PC1 (io), 19 PC0 (io), 20 PA7 (io), 21 PA6 (io), 22 PA5 (io), 23 PA4 (io), 24 NC, 25 NC, 26 PA3 (io), 27 PA2 (io), 28 PA1 (io), 29 PA0 (io), 30 TEST (in), 31 VSS (power), 32 VDD (power)

## ST72101G1M1
designator U?
8-Bit 4k ROM MCU with 256b RAM, WDG, SPI and One Timer, 28-Pin SOIC, Standard; Published: 26-May-2004; DatasheetDocument: rev1.8, May-2001; PackageDocument: Jul-2001; PackageReference: SO28; Publisher: Altium Limited; Code_IPC: SO28W
footprint SO28 (Small Outline, Plastic; 28 Leads; Body Width 7.5 mm; Pitch 1.27 mm)
pins: 1 ~{RESET} (io), 2 OSCIN (in), 3 OSCOUT (out), 4 ~{SS}/PB7 (io), 5 SCK/PB6 (io), 6 MISO/PB5 (io), 7 MOSI/PB4 (io), 8 OCMP2_A/PB3 (io), 9 ICAP2_A/PB2 (io), 10 OCMP1_A/PB1 (io), 11 ICAP1_A/PB0 (io), 12 PC5/EXTCLK_A (io), 13 PC4 (io), 14 PC3 (io), 15 PC2/CLKOUT (io), 16 PC1 (io), 17 PC0 (io), 18 PA7 (io), 19 PA6 (io), 20 PA5 (io), 21 PA4 (io), 22 PA3 (io), 23 PA2 (io), 24 PA1 (io), 25 PA0 (io), 26 TEST (in), 27 VSS (power), 28 VDD (power)

## ST72101G1M3
designator U?
8-Bit 4k ROM MCU with 256b RAM, WDG, SPI and One Timer, 28-Pin SOIC, Automotive; Published: 26-May-2004; DatasheetDocument: rev1.8, May-2001; PackageDocument: Jul-2001; PackageReference: SO28; Publisher: Altium Limited; Code_IPC: SO28W
footprint SO28 (Small Outline, Plastic; 28 Leads; Body Width 7.5 mm; Pitch 1.27 mm)
pins: 1 ~{RESET} (io), 2 OSCIN (in), 3 OSCOUT (out), 4 ~{SS}/PB7 (io), 5 SCK/PB6 (io), 6 MISO/PB5 (io), 7 MOSI/PB4 (io), 8 OCMP2_A/PB3 (io), 9 ICAP2_A/PB2 (io), 10 OCMP1_A/PB1 (io), 11 ICAP1_A/PB0 (io), 12 PC5/EXTCLK_A (io), 13 PC4 (io), 14 PC3 (io), 15 PC2/CLKOUT (io), 16 PC1 (io), 17 PC0 (io), 18 PA7 (io), 19 PA6 (io), 20 PA5 (io), 21 PA4 (io), 22 PA3 (io), 23 PA2 (io), 24 PA1 (io), 25 PA0 (io), 26 TEST (in), 27 VSS (power), 28 VDD (power)

## ST72101G1M6
designator U?
8-Bit 4k ROM MCU with 256b RAM, WDG, SPI and One Timer, 28-Pin SOIC, Industrial; Published: 26-May-2004; DatasheetDocument: rev1.8, May-2001; PackageDocument: Jul-2001; PackageReference: SO28; Publisher: Altium Limited; Code_IPC: SO28W
footprint SO28 (Small Outline, Plastic; 28 Leads; Body Width 7.5 mm; Pitch 1.27 mm)
pins: 1 ~{RESET} (io), 2 OSCIN (in), 3 OSCOUT (out), 4 ~{SS}/PB7 (io), 5 SCK/PB6 (io), 6 MISO/PB5 (io), 7 MOSI/PB4 (io), 8 OCMP2_A/PB3 (io), 9 ICAP2_A/PB2 (io), 10 OCMP1_A/PB1 (io), 11 ICAP1_A/PB0 (io), 12 PC5/EXTCLK_A (io), 13 PC4 (io), 14 PC3 (io), 15 PC2/CLKOUT (io), 16 PC1 (io), 17 PC0 (io), 18 PA7 (io), 19 PA6 (io), 20 PA5 (io), 21 PA4 (io), 22 PA3 (io), 23 PA2 (io), 24 PA1 (io), 25 PA0 (io), 26 TEST (in), 27 VSS (power), 28 VDD (power)

## ST72101G2B1
designator U?
8-Bit 8k ROM MCU with 256b RAM, WDG, SPI and One Timer, 32-Pin PDIP, Standard; PackageDocument: rev1.7, Oct-2001; Published: 26-May-2004; DatasheetDocument: rev1.8, May-2001; PackageReference: PSDIP32; Publisher: Altium Limited
footprint PSDIP32 (DIP, Plastic Shrink; 32 Leads; Row Spacing 10.16 mm; Pitch 1.78 mm)
pins: 1 ~{RESET} (io), 2 OSCIN (in), 3 OSCOUT (out), 4 ~{SS}/PB7 (io), 5 SCK/PB6 (io), 6 MISO/PB5 (io), 7 MOSI/PB4 (io), 8 NC, 9 NC, 10 OCMP2_A/PB3 (io), 11 ICAP2_A/PB2 (io), 12 OCMP1_A/PB1 (io), 13 ICAP1_A/PB0 (io), 14 PC5/EXTCLK_A (io), 15 PC4 (io), 16 PC3 (io), 17 PC2/CLKOUT (io), 18 PC1 (io), 19 PC0 (io), 20 PA7 (io), 21 PA6 (io), 22 PA5 (io), 23 PA4 (io), 24 NC, 25 NC, 26 PA3 (io), 27 PA2 (io), 28 PA1 (io), 29 PA0 (io), 30 TEST (in), 31 VSS (power), 32 VDD (power)

## ST72101G2B3
designator U?
8-Bit 8k ROM MCU with 256b RAM, WDG, SPI and One Timer, 32-Pin PDIP, Automotive; PackageDocument: rev1.7, Oct-2001; Published: 26-May-2004; DatasheetDocument: rev1.8, May-2001; PackageReference: PSDIP32; Publisher: Altium Limited
footprint PSDIP32 (DIP, Plastic Shrink; 32 Leads; Row Spacing 10.16 mm; Pitch 1.78 mm)
pins: 1 ~{RESET} (io), 2 OSCIN (in), 3 OSCOUT (out), 4 ~{SS}/PB7 (io), 5 SCK/PB6 (io), 6 MISO/PB5 (io), 7 MOSI/PB4 (io), 8 NC, 9 NC, 10 OCMP2_A/PB3 (io), 11 ICAP2_A/PB2 (io), 12 OCMP1_A/PB1 (io), 13 ICAP1_A/PB0 (io), 14 PC5/EXTCLK_A (io), 15 PC4 (io), 16 PC3 (io), 17 PC2/CLKOUT (io), 18 PC1 (io), 19 PC0 (io), 20 PA7 (io), 21 PA6 (io), 22 PA5 (io), 23 PA4 (io), 24 NC, 25 NC, 26 PA3 (io), 27 PA2 (io), 28 PA1 (io), 29 PA0 (io), 30 TEST (in), 31 VSS (power), 32 VDD (power)

## ST72101G2B6
designator U?
8-Bit 8k ROM MCU with 256b RAM, WDG, SPI and One Timer, 32-Pin PDIP, Industrial; PackageDocument: rev1.7, Oct-2001; Published: 26-May-2004; DatasheetDocument: rev1.8, May-2001; PackageReference: PSDIP32; Publisher: Altium Limited
footprint PSDIP32 (DIP, Plastic Shrink; 32 Leads; Row Spacing 10.16 mm; Pitch 1.78 mm)
pins: 1 ~{RESET} (io), 2 OSCIN (in), 3 OSCOUT (out), 4 ~{SS}/PB7 (io), 5 SCK/PB6 (io), 6 MISO/PB5 (io), 7 MOSI/PB4 (io), 8 NC, 9 NC, 10 OCMP2_A/PB3 (io), 11 ICAP2_A/PB2 (io), 12 OCMP1_A/PB1 (io), 13 ICAP1_A/PB0 (io), 14 PC5/EXTCLK_A (io), 15 PC4 (io), 16 PC3 (io), 17 PC2/CLKOUT (io), 18 PC1 (io), 19 PC0 (io), 20 PA7 (io), 21 PA6 (io), 22 PA5 (io), 23 PA4 (io), 24 NC, 25 NC, 26 PA3 (io), 27 PA2 (io), 28 PA1 (io), 29 PA0 (io), 30 TEST (in), 31 VSS (power), 32 VDD (power)

## ST72101G2M1
designator U?
8-Bit 8k ROM MCU with 256b RAM, WDG, SPI and One Timer, 28-Pin SOIC, Standard; Published: 26-May-2004; DatasheetDocument: rev1.8, May-2001; PackageDocument: Jul-2001; PackageReference: SO28; Publisher: Altium Limited; Code_IPC: SO28W
footprint SO28 (Small Outline, Plastic; 28 Leads; Body Width 7.5 mm; Pitch 1.27 mm)
pins: 1 ~{RESET} (io), 2 OSCIN (in), 3 OSCOUT (out), 4 ~{SS}/PB7 (io), 5 SCK/PB6 (io), 6 MISO/PB5 (io), 7 MOSI/PB4 (io), 8 OCMP2_A/PB3 (io), 9 ICAP2_A/PB2 (io), 10 OCMP1_A/PB1 (io), 11 ICAP1_A/PB0 (io), 12 PC5/EXTCLK_A (io), 13 PC4 (io), 14 PC3 (io), 15 PC2/CLKOUT (io), 16 PC1 (io), 17 PC0 (io), 18 PA7 (io), 19 PA6 (io), 20 PA5 (io), 21 PA4 (io), 22 PA3 (io), 23 PA2 (io), 24 PA1 (io), 25 PA0 (io), 26 TEST (in), 27 VSS (power), 28 VDD (power)

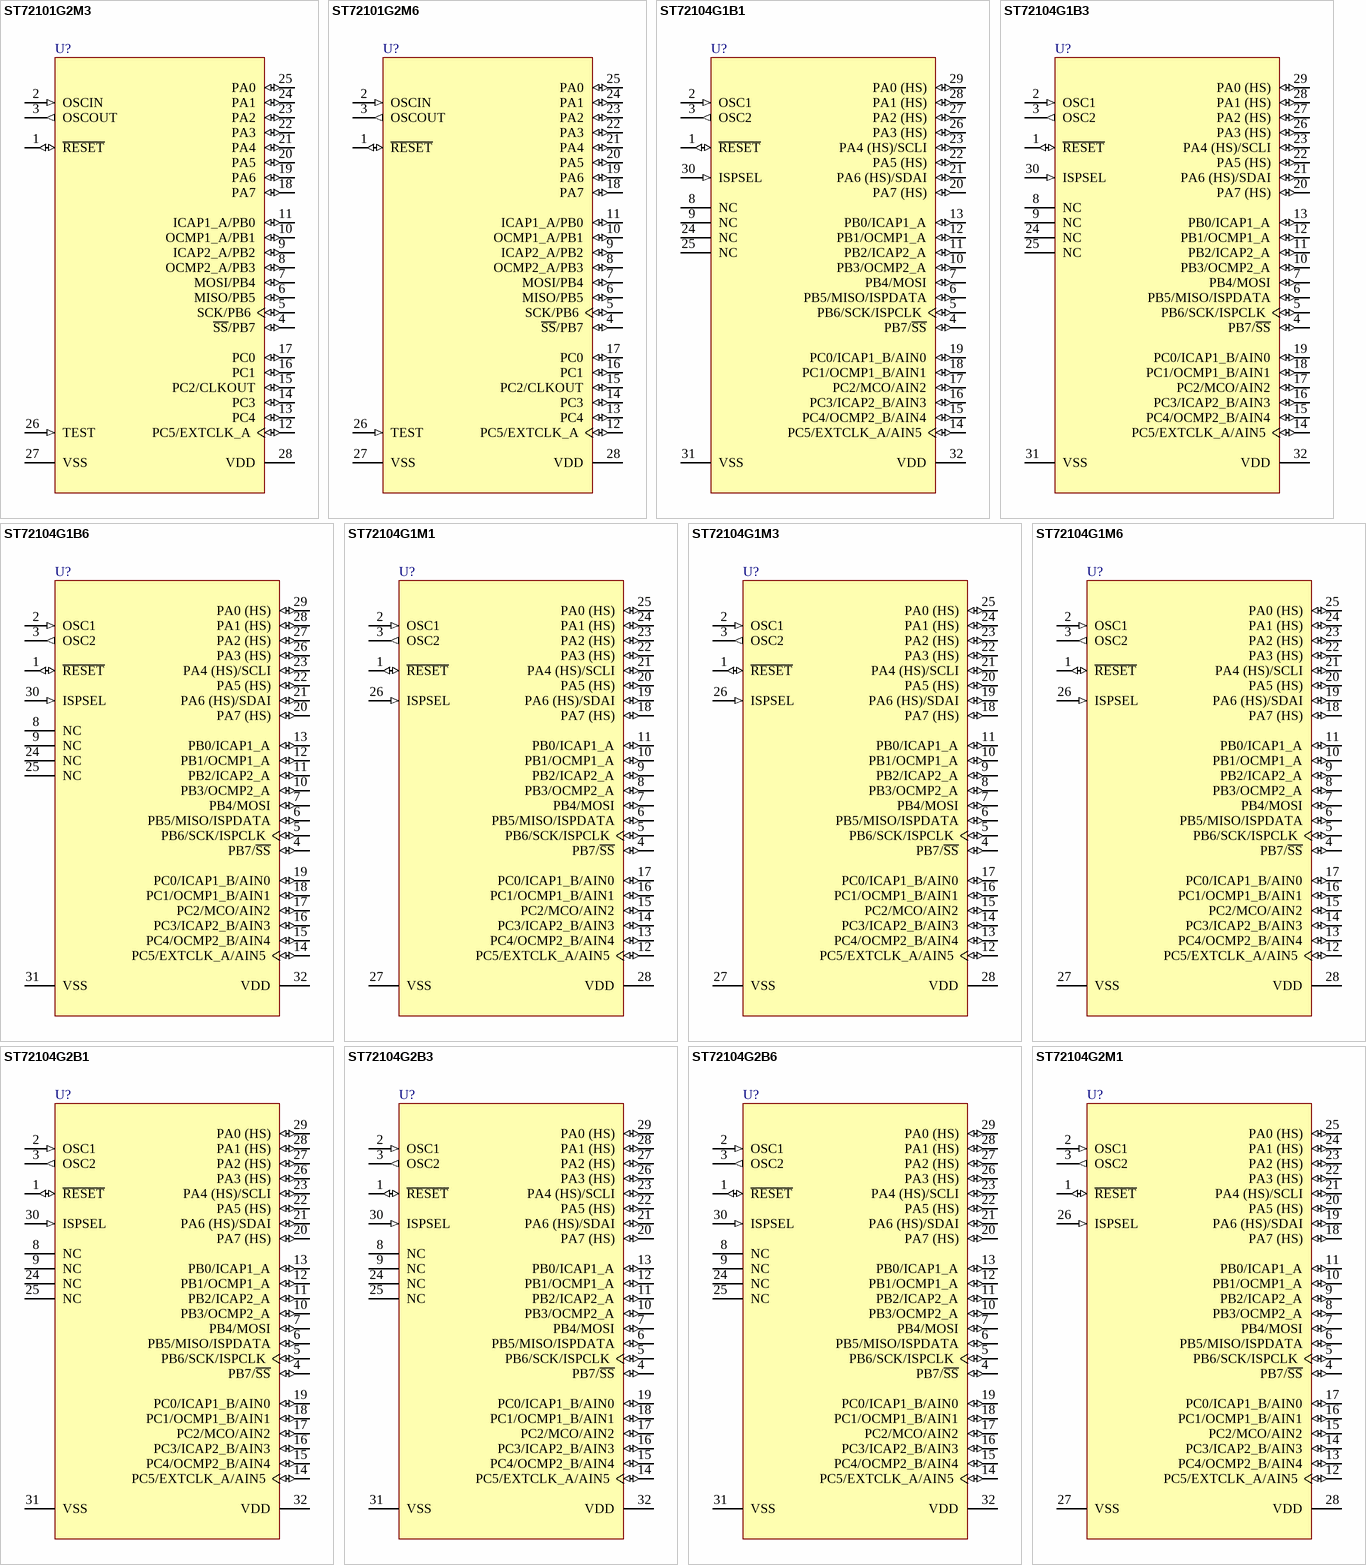
[diagram p96: symbols ST72101G2M3 to ST72104G2M1]

## ST72101G2M3
designator U?
8-Bit 8k ROM MCU with 256b RAM, WDG, SPI and One Timer, 28-Pin SOIC, Automotive; Published: 26-May-2004; DatasheetDocument: rev1.8, May-2001; PackageDocument: Jul-2001; PackageReference: SO28; Publisher: Altium Limited; Code_IPC: SO28W
footprint SO28 (Small Outline, Plastic; 28 Leads; Body Width 7.5 mm; Pitch 1.27 mm)
pins: 1 ~{RESET} (io), 2 OSCIN (in), 3 OSCOUT (out), 4 ~{SS}/PB7 (io), 5 SCK/PB6 (io), 6 MISO/PB5 (io), 7 MOSI/PB4 (io), 8 OCMP2_A/PB3 (io), 9 ICAP2_A/PB2 (io), 10 OCMP1_A/PB1 (io), 11 ICAP1_A/PB0 (io), 12 PC5/EXTCLK_A (io), 13 PC4 (io), 14 PC3 (io), 15 PC2/CLKOUT (io), 16 PC1 (io), 17 PC0 (io), 18 PA7 (io), 19 PA6 (io), 20 PA5 (io), 21 PA4 (io), 22 PA3 (io), 23 PA2 (io), 24 PA1 (io), 25 PA0 (io), 26 TEST (in), 27 VSS (power), 28 VDD (power)

## ST72101G2M6
designator U?
8-Bit 8k ROM MCU with 256b RAM, WDG, SPI and One Timer, 28-Pin SOIC, Industrial; Published: 26-May-2004; DatasheetDocument: rev1.8, May-2001; PackageDocument: Jul-2001; PackageReference: SO28; Publisher: Altium Limited; Code_IPC: SO28W
footprint SO28 (Small Outline, Plastic; 28 Leads; Body Width 7.5 mm; Pitch 1.27 mm)
pins: 1 ~{RESET} (io), 2 OSCIN (in), 3 OSCOUT (out), 4 ~{SS}/PB7 (io), 5 SCK/PB6 (io), 6 MISO/PB5 (io), 7 MOSI/PB4 (io), 8 OCMP2_A/PB3 (io), 9 ICAP2_A/PB2 (io), 10 OCMP1_A/PB1 (io), 11 ICAP1_A/PB0 (io), 12 PC5/EXTCLK_A (io), 13 PC4 (io), 14 PC3 (io), 15 PC2/CLKOUT (io), 16 PC1 (io), 17 PC0 (io), 18 PA7 (io), 19 PA6 (io), 20 PA5 (io), 21 PA4 (io), 22 PA3 (io), 23 PA2 (io), 24 PA1 (io), 25 PA0 (io), 26 TEST (in), 27 VSS (power), 28 VDD (power)

## ST72104G1B1
designator U?
8-Bit 4k ROM MCU, 256b RAM, WDG, 16-Bit Timer, SPI Interface, 32-Pin PDIP, Standard; PackageDocument: rev1.7, Oct-2001; Note: Pins 4-7, 14-23 and 26-29 are External Interrupt (EI) pins.; Published: 26-May-2004; DatasheetDocument: rev2.6, Nov-2000; PackageReference: PSDIP32; Publisher: Altium Limited
footprint PSDIP32 (DIP, Plastic Shrink; 32 Leads; Row Spacing 10.16 mm; Pitch 1.78 mm)
pins: 1 ~{RESET} (io), 2 OSC1 (in), 3 OSC2 (out), 4 PB7/~{SS} (io), 5 PB6/SCK/ISPCLK (io), 6 PB5/MISO/ISPDATA (io), 7 PB4/MOSI (io), 8 NC, 9 NC, 10 PB3/OCMP2_A (io), 11 PB2/ICAP2_A (io), 12 PB1/OCMP1_A (io), 13 PB0/ICAP1_A (io), 14 PC5/EXTCLK_A/AIN5 (io), 15 PC4/OCMP2_B/AIN4 (io), 16 PC3/ICAP2_B/AIN3 (io), 17 PC2/MCO/AIN2 (io), 18 PC1/OCMP1_B/AIN1 (io), 19 PC0/ICAP1_B/AIN0 (io), 20 PA7 (HS) (io), 21 PA6 (HS)/SDAI (io), 22 PA5 (HS) (io), 23 PA4 (HS)/SCLI (io), 24 NC, 25 NC, 26 PA3 (HS) (io), 27 PA2 (HS) (io), 28 PA1 (HS) (io), 29 PA0 (HS) (io), 30 ISPSEL (in), 31 VSS (power), 32 VDD (power)

## ST72104G1B3
designator U?
8-Bit 4k ROM MCU, 256b RAM, WDG, 16-Bit Timer, SPI Interface, 32-Pin PDIP, Automotive; PackageDocument: rev1.7, Oct-2001; Note: Pins 4-7, 14-23 and 26-29 are External Interrupt (EI) pins.; Published: 26-May-2004; DatasheetDocument: rev2.6, Nov-2000; PackageReference: PSDIP32; Publisher: Altium Limited
footprint PSDIP32 (DIP, Plastic Shrink; 32 Leads; Row Spacing 10.16 mm; Pitch 1.78 mm)
pins: 1 ~{RESET} (io), 2 OSC1 (in), 3 OSC2 (out), 4 PB7/~{SS} (io), 5 PB6/SCK/ISPCLK (io), 6 PB5/MISO/ISPDATA (io), 7 PB4/MOSI (io), 8 NC, 9 NC, 10 PB3/OCMP2_A (io), 11 PB2/ICAP2_A (io), 12 PB1/OCMP1_A (io), 13 PB0/ICAP1_A (io), 14 PC5/EXTCLK_A/AIN5 (io), 15 PC4/OCMP2_B/AIN4 (io), 16 PC3/ICAP2_B/AIN3 (io), 17 PC2/MCO/AIN2 (io), 18 PC1/OCMP1_B/AIN1 (io), 19 PC0/ICAP1_B/AIN0 (io), 20 PA7 (HS) (io), 21 PA6 (HS)/SDAI (io), 22 PA5 (HS) (io), 23 PA4 (HS)/SCLI (io), 24 NC, 25 NC, 26 PA3 (HS) (io), 27 PA2 (HS) (io), 28 PA1 (HS) (io), 29 PA0 (HS) (io), 30 ISPSEL (in), 31 VSS (power), 32 VDD (power)

## ST72104G1B6
designator U?
8-Bit 4k ROM MCU, 256b RAM, WDG, 16-Bit Timer, SPI Interface, 32-Pin PDIP, Industrial; PackageDocument: rev1.7, Oct-2001; Note: Pins 4-7, 14-23 and 26-29 are External Interrupt (EI) pins.; Published: 26-May-2004; DatasheetDocument: rev2.6, Nov-2000; PackageReference: PSDIP32; Publisher: Altium Limited
footprint PSDIP32 (DIP, Plastic Shrink; 32 Leads; Row Spacing 10.16 mm; Pitch 1.78 mm)
pins: 1 ~{RESET} (io), 2 OSC1 (in), 3 OSC2 (out), 4 PB7/~{SS} (io), 5 PB6/SCK/ISPCLK (io), 6 PB5/MISO/ISPDATA (io), 7 PB4/MOSI (io), 8 NC, 9 NC, 10 PB3/OCMP2_A (io), 11 PB2/ICAP2_A (io), 12 PB1/OCMP1_A (io), 13 PB0/ICAP1_A (io), 14 PC5/EXTCLK_A/AIN5 (io), 15 PC4/OCMP2_B/AIN4 (io), 16 PC3/ICAP2_B/AIN3 (io), 17 PC2/MCO/AIN2 (io), 18 PC1/OCMP1_B/AIN1 (io), 19 PC0/ICAP1_B/AIN0 (io), 20 PA7 (HS) (io), 21 PA6 (HS)/SDAI (io), 22 PA5 (HS) (io), 23 PA4 (HS)/SCLI (io), 24 NC, 25 NC, 26 PA3 (HS) (io), 27 PA2 (HS) (io), 28 PA1 (HS) (io), 29 PA0 (HS) (io), 30 ISPSEL (in), 31 VSS (power), 32 VDD (power)

## ST72104G1M1
designator U?
8-Bit 4k ROM MCU, 256b RAM, WDG, 16-Bit Timer, SPI Interface, 28-Pin SOIC, Standard; Note: Pins 4-25 are External Interrupt (EI) pins.; Published: 26-May-2004; DatasheetDocument: rev2.6, Nov-2000; PackageDocument: Jul-2001; PackageReference: SO28; Publisher: Altium Limited; Code_IPC: SO28W
footprint SO28 (Small Outline, Plastic; 28 Leads; Body Width 7.5 mm; Pitch 1.27 mm)
pins: 1 ~{RESET} (io), 2 OSC1 (in), 3 OSC2 (out), 4 PB7/~{SS} (io), 5 PB6/SCK/ISPCLK (io), 6 PB5/MISO/ISPDATA (io), 7 PB4/MOSI (io), 8 PB3/OCMP2_A (io), 9 PB2/ICAP2_A (io), 10 PB1/OCMP1_A (io), 11 PB0/ICAP1_A (io), 12 PC5/EXTCLK_A/AIN5 (io), 13 PC4/OCMP2_B/AIN4 (io), 14 PC3/ICAP2_B/AIN3 (io), 15 PC2/MCO/AIN2 (io), 16 PC1/OCMP1_B/AIN1 (io), 17 PC0/ICAP1_B/AIN0 (io), 18 PA7 (HS) (io), 19 PA6 (HS)/SDAI (io), 20 PA5 (HS) (io), 21 PA4 (HS)/SCLI (io), 22 PA3 (HS) (io), 23 PA2 (HS) (io), 24 PA1 (HS) (io), 25 PA0 (HS) (io), 26 ISPSEL (in), 27 VSS (power), 28 VDD (power)

## ST72104G1M3
designator U?
8-Bit 4k ROM MCU, 256b RAM, WDG, 16-Bit Timer, SPI Interface, 28-Pin SOIC, Automotive; Note: Pins 4-25 are External Interrupt (EI) pins.; Published: 26-May-2004; DatasheetDocument: rev2.6, Nov-2000; PackageDocument: Jul-2001; PackageReference: SO28; Publisher: Altium Limited; Code_IPC: SO28W
footprint SO28 (Small Outline, Plastic; 28 Leads; Body Width 7.5 mm; Pitch 1.27 mm)
pins: 1 ~{RESET} (io), 2 OSC1 (in), 3 OSC2 (out), 4 PB7/~{SS} (io), 5 PB6/SCK/ISPCLK (io), 6 PB5/MISO/ISPDATA (io), 7 PB4/MOSI (io), 8 PB3/OCMP2_A (io), 9 PB2/ICAP2_A (io), 10 PB1/OCMP1_A (io), 11 PB0/ICAP1_A (io), 12 PC5/EXTCLK_A/AIN5 (io), 13 PC4/OCMP2_B/AIN4 (io), 14 PC3/ICAP2_B/AIN3 (io), 15 PC2/MCO/AIN2 (io), 16 PC1/OCMP1_B/AIN1 (io), 17 PC0/ICAP1_B/AIN0 (io), 18 PA7 (HS) (io), 19 PA6 (HS)/SDAI (io), 20 PA5 (HS) (io), 21 PA4 (HS)/SCLI (io), 22 PA3 (HS) (io), 23 PA2 (HS) (io), 24 PA1 (HS) (io), 25 PA0 (HS) (io), 26 ISPSEL (in), 27 VSS (power), 28 VDD (power)

## ST72104G1M6
designator U?
8-Bit 4k ROM MCU, 256b RAM, WDG, 16-Bit Timer, SPI Interface, 28-Pin SOIC, Industrial; Note: Pins 4-25 are External Interrupt (EI) pins.; Published: 26-May-2004; DatasheetDocument: rev2.6, Nov-2000; PackageDocument: Jul-2001; PackageReference: SO28; Publisher: Altium Limited; Code_IPC: SO28W
footprint SO28 (Small Outline, Plastic; 28 Leads; Body Width 7.5 mm; Pitch 1.27 mm)
pins: 1 ~{RESET} (io), 2 OSC1 (in), 3 OSC2 (out), 4 PB7/~{SS} (io), 5 PB6/SCK/ISPCLK (io), 6 PB5/MISO/ISPDATA (io), 7 PB4/MOSI (io), 8 PB3/OCMP2_A (io), 9 PB2/ICAP2_A (io), 10 PB1/OCMP1_A (io), 11 PB0/ICAP1_A (io), 12 PC5/EXTCLK_A/AIN5 (io), 13 PC4/OCMP2_B/AIN4 (io), 14 PC3/ICAP2_B/AIN3 (io), 15 PC2/MCO/AIN2 (io), 16 PC1/OCMP1_B/AIN1 (io), 17 PC0/ICAP1_B/AIN0 (io), 18 PA7 (HS) (io), 19 PA6 (HS)/SDAI (io), 20 PA5 (HS) (io), 21 PA4 (HS)/SCLI (io), 22 PA3 (HS) (io), 23 PA2 (HS) (io), 24 PA1 (HS) (io), 25 PA0 (HS) (io), 26 ISPSEL (in), 27 VSS (power), 28 VDD (power)

## ST72104G2B1
designator U?
8-Bit 8k ROM MCU, 256b RAM, WDG, 16-Bit Timer, SPI Interface, 32-Pin PDIP, Standard; PackageDocument: rev1.7, Oct-2001; Note: Pins 4-7, 14-23 and 26-29 are External Interrupt (EI) pins.; Published: 26-May-2004; DatasheetDocument: rev2.6, Nov-2000; PackageReference: PSDIP32; Publisher: Altium Limited
footprint PSDIP32 (DIP, Plastic Shrink; 32 Leads; Row Spacing 10.16 mm; Pitch 1.78 mm)
pins: 1 ~{RESET} (io), 2 OSC1 (in), 3 OSC2 (out), 4 PB7/~{SS} (io), 5 PB6/SCK/ISPCLK (io), 6 PB5/MISO/ISPDATA (io), 7 PB4/MOSI (io), 8 NC, 9 NC, 10 PB3/OCMP2_A (io), 11 PB2/ICAP2_A (io), 12 PB1/OCMP1_A (io), 13 PB0/ICAP1_A (io), 14 PC5/EXTCLK_A/AIN5 (io), 15 PC4/OCMP2_B/AIN4 (io), 16 PC3/ICAP2_B/AIN3 (io), 17 PC2/MCO/AIN2 (io), 18 PC1/OCMP1_B/AIN1 (io), 19 PC0/ICAP1_B/AIN0 (io), 20 PA7 (HS) (io), 21 PA6 (HS)/SDAI (io), 22 PA5 (HS) (io), 23 PA4 (HS)/SCLI (io), 24 NC, 25 NC, 26 PA3 (HS) (io), 27 PA2 (HS) (io), 28 PA1 (HS) (io), 29 PA0 (HS) (io), 30 ISPSEL (in), 31 VSS (power), 32 VDD (power)

## ST72104G2B3
designator U?
8-Bit 8k ROM MCU, 256b RAM, WDG, 16-Bit Timer, SPI Interface, 32-Pin PDIP, Automotive; PackageDocument: rev1.7, Oct-2001; Note: Pins 4-7, 14-23 and 26-29 are External Interrupt (EI) pins.; Published: 26-May-2004; DatasheetDocument: rev2.6, Nov-2000; PackageReference: PSDIP32; Publisher: Altium Limited
footprint PSDIP32 (DIP, Plastic Shrink; 32 Leads; Row Spacing 10.16 mm; Pitch 1.78 mm)
pins: 1 ~{RESET} (io), 2 OSC1 (in), 3 OSC2 (out), 4 PB7/~{SS} (io), 5 PB6/SCK/ISPCLK (io), 6 PB5/MISO/ISPDATA (io), 7 PB4/MOSI (io), 8 NC, 9 NC, 10 PB3/OCMP2_A (io), 11 PB2/ICAP2_A (io), 12 PB1/OCMP1_A (io), 13 PB0/ICAP1_A (io), 14 PC5/EXTCLK_A/AIN5 (io), 15 PC4/OCMP2_B/AIN4 (io), 16 PC3/ICAP2_B/AIN3 (io), 17 PC2/MCO/AIN2 (io), 18 PC1/OCMP1_B/AIN1 (io), 19 PC0/ICAP1_B/AIN0 (io), 20 PA7 (HS) (io), 21 PA6 (HS)/SDAI (io), 22 PA5 (HS) (io), 23 PA4 (HS)/SCLI (io), 24 NC, 25 NC, 26 PA3 (HS) (io), 27 PA2 (HS) (io), 28 PA1 (HS) (io), 29 PA0 (HS) (io), 30 ISPSEL (in), 31 VSS (power), 32 VDD (power)

## ST72104G2B6
designator U?
8-Bit 8k ROM MCU, 256b RAM, WDG, 16-Bit Timer, SPI Interface, 32-Pin PDIP, Industrial; PackageDocument: rev1.7, Oct-2001; Note: Pins 4-7, 14-23 and 26-29 are External Interrupt (EI) pins.; Published: 26-May-2004; DatasheetDocument: rev2.6, Nov-2000; PackageReference: PSDIP32; Publisher: Altium Limited
footprint PSDIP32 (DIP, Plastic Shrink; 32 Leads; Row Spacing 10.16 mm; Pitch 1.78 mm)
pins: 1 ~{RESET} (io), 2 OSC1 (in), 3 OSC2 (out), 4 PB7/~{SS} (io), 5 PB6/SCK/ISPCLK (io), 6 PB5/MISO/ISPDATA (io), 7 PB4/MOSI (io), 8 NC, 9 NC, 10 PB3/OCMP2_A (io), 11 PB2/ICAP2_A (io), 12 PB1/OCMP1_A (io), 13 PB0/ICAP1_A (io), 14 PC5/EXTCLK_A/AIN5 (io), 15 PC4/OCMP2_B/AIN4 (io), 16 PC3/ICAP2_B/AIN3 (io), 17 PC2/MCO/AIN2 (io), 18 PC1/OCMP1_B/AIN1 (io), 19 PC0/ICAP1_B/AIN0 (io), 20 PA7 (HS) (io), 21 PA6 (HS)/SDAI (io), 22 PA5 (HS) (io), 23 PA4 (HS)/SCLI (io), 24 NC, 25 NC, 26 PA3 (HS) (io), 27 PA2 (HS) (io), 28 PA1 (HS) (io), 29 PA0 (HS) (io), 30 ISPSEL (in), 31 VSS (power), 32 VDD (power)

## ST72104G2M1
designator U?
8-Bit 8k ROM MCU, 256b RAM, WDG, 16-Bit Timer, SPI Interface, 28-Pin SOIC, Standard; Note: Pins 4-25 are External Interrupt (EI) pins.; Published: 26-May-2004; DatasheetDocument: rev2.6, Nov-2000; PackageDocument: Jul-2001; PackageReference: SO28; Publisher: Altium Limited; Code_IPC: SO28W
footprint SO28 (Small Outline, Plastic; 28 Leads; Body Width 7.5 mm; Pitch 1.27 mm)
pins: 1 ~{RESET} (io), 2 OSC1 (in), 3 OSC2 (out), 4 PB7/~{SS} (io), 5 PB6/SCK/ISPCLK (io), 6 PB5/MISO/ISPDATA (io), 7 PB4/MOSI (io), 8 PB3/OCMP2_A (io), 9 PB2/ICAP2_A (io), 10 PB1/OCMP1_A (io), 11 PB0/ICAP1_A (io), 12 PC5/EXTCLK_A/AIN5 (io), 13 PC4/OCMP2_B/AIN4 (io), 14 PC3/ICAP2_B/AIN3 (io), 15 PC2/MCO/AIN2 (io), 16 PC1/OCMP1_B/AIN1 (io), 17 PC0/ICAP1_B/AIN0 (io), 18 PA7 (HS) (io), 19 PA6 (HS)/SDAI (io), 20 PA5 (HS) (io), 21 PA4 (HS)/SCLI (io), 22 PA3 (HS) (io), 23 PA2 (HS) (io), 24 PA1 (HS) (io), 25 PA0 (HS) (io), 26 ISPSEL (in), 27 VSS (power), 28 VDD (power)

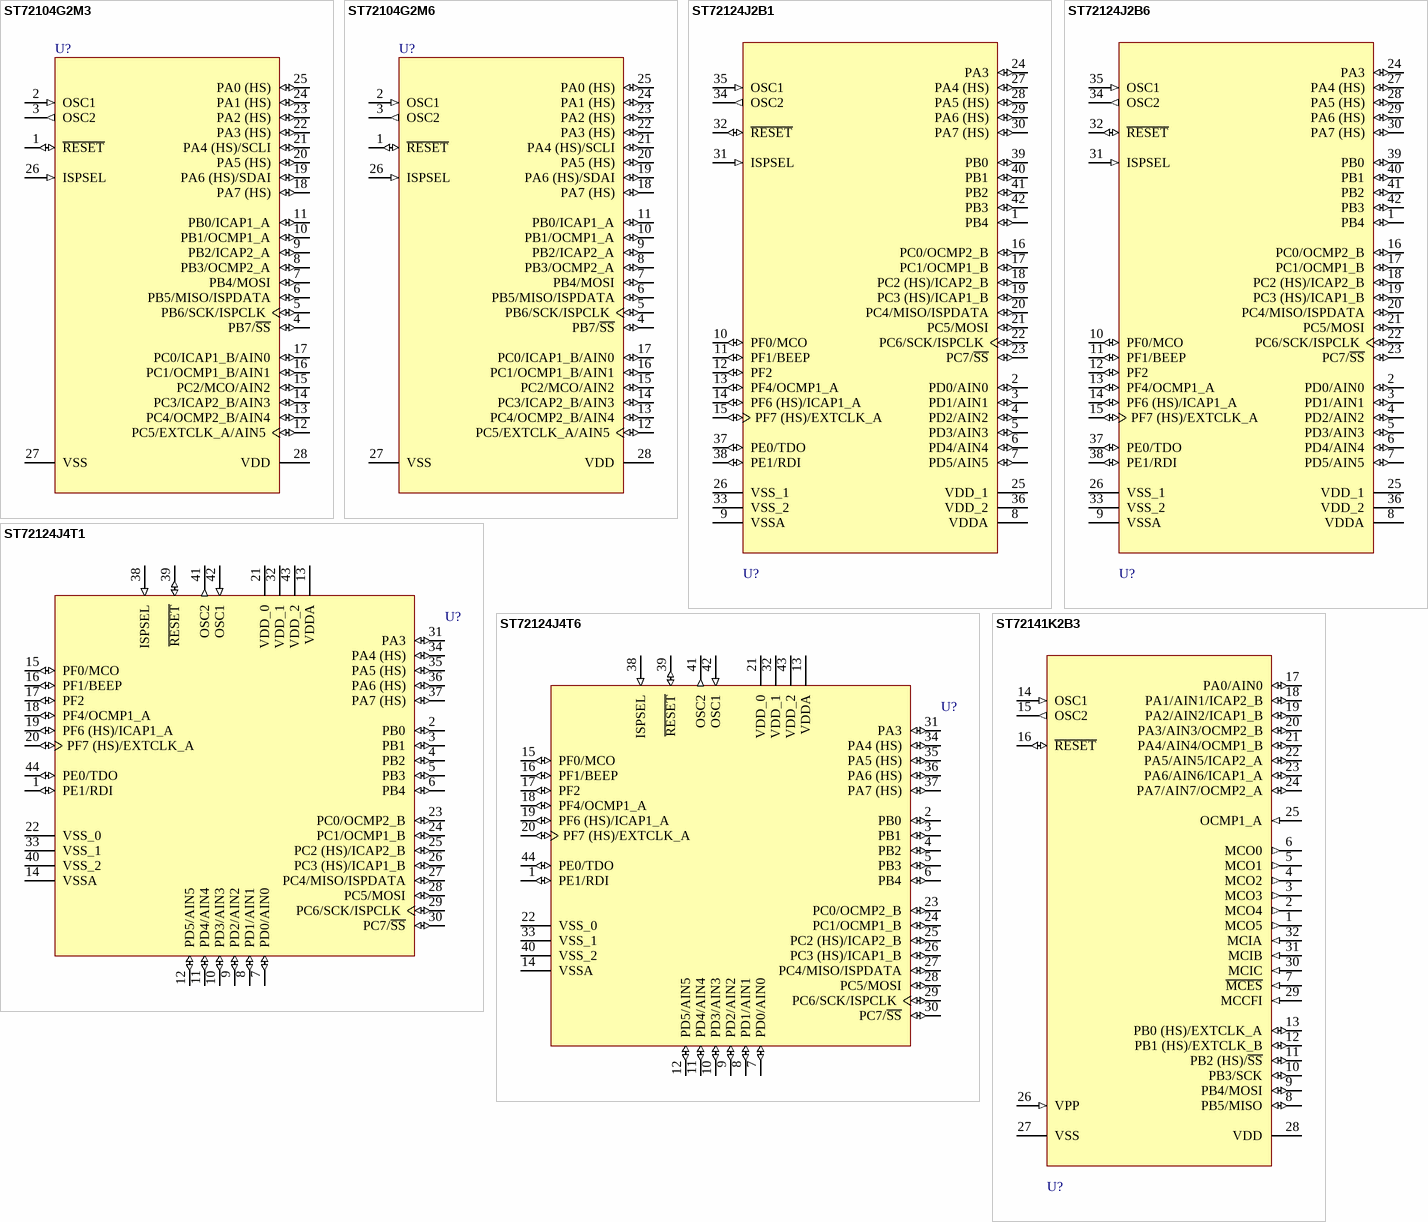
[diagram p97: symbols ST72104G2M3 to ST72141K2B3]

## ST72104G2M3
designator U?
8-Bit 8k ROM MCU, 256b RAM, WDG, 16-Bit Timer, SPI Interface, 28-Pin SOIC, Automotive; Note: Pins 4-25 are External Interrupt (EI) pins.; Published: 26-May-2004; DatasheetDocument: rev2.6, Nov-2000; PackageDocument: Jul-2001; PackageReference: SO28; Publisher: Altium Limited; Code_IPC: SO28W
footprint SO28 (Small Outline, Plastic; 28 Leads; Body Width 7.5 mm; Pitch 1.27 mm)
pins: 1 ~{RESET} (io), 2 OSC1 (in), 3 OSC2 (out), 4 PB7/~{SS} (io), 5 PB6/SCK/ISPCLK (io), 6 PB5/MISO/ISPDATA (io), 7 PB4/MOSI (io), 8 PB3/OCMP2_A (io), 9 PB2/ICAP2_A (io), 10 PB1/OCMP1_A (io), 11 PB0/ICAP1_A (io), 12 PC5/EXTCLK_A/AIN5 (io), 13 PC4/OCMP2_B/AIN4 (io), 14 PC3/ICAP2_B/AIN3 (io), 15 PC2/MCO/AIN2 (io), 16 PC1/OCMP1_B/AIN1 (io), 17 PC0/ICAP1_B/AIN0 (io), 18 PA7 (HS) (io), 19 PA6 (HS)/SDAI (io), 20 PA5 (HS) (io), 21 PA4 (HS)/SCLI (io), 22 PA3 (HS) (io), 23 PA2 (HS) (io), 24 PA1 (HS) (io), 25 PA0 (HS) (io), 26 ISPSEL (in), 27 VSS (power), 28 VDD (power)

## ST72104G2M6
designator U?
8-Bit 8k ROM MCU, 256b RAM, WDG, 16-Bit Timer, SPI Interface, 28-Pin SOIC, Industrial; Note: Pins 4-25 are External Interrupt (EI) pins.; Published: 26-May-2004; DatasheetDocument: rev2.6, Nov-2000; PackageDocument: Jul-2001; PackageReference: SO28; Publisher: Altium Limited; Code_IPC: SO28W
footprint SO28 (Small Outline, Plastic; 28 Leads; Body Width 7.5 mm; Pitch 1.27 mm)
pins: 1 ~{RESET} (io), 2 OSC1 (in), 3 OSC2 (out), 4 PB7/~{SS} (io), 5 PB6/SCK/ISPCLK (io), 6 PB5/MISO/ISPDATA (io), 7 PB4/MOSI (io), 8 PB3/OCMP2_A (io), 9 PB2/ICAP2_A (io), 10 PB1/OCMP1_A (io), 11 PB0/ICAP1_A (io), 12 PC5/EXTCLK_A/AIN5 (io), 13 PC4/OCMP2_B/AIN4 (io), 14 PC3/ICAP2_B/AIN3 (io), 15 PC2/MCO/AIN2 (io), 16 PC1/OCMP1_B/AIN1 (io), 17 PC0/ICAP1_B/AIN0 (io), 18 PA7 (HS) (io), 19 PA6 (HS)/SDAI (io), 20 PA5 (HS) (io), 21 PA4 (HS)/SCLI (io), 22 PA3 (HS) (io), 23 PA2 (HS) (io), 24 PA1 (HS) (io), 25 PA0 (HS) (io), 26 ISPSEL (in), 27 VSS (power), 28 VDD (power)

## ST72124J2B1
designator U?
8-Bit MCU with 8k ROM, 384b RAM, 16-Bit Timers, SPI and SCI Interface, 42-Pin PDIP, Standard; Note: Pins 1, 10-12, 24 and 39-42 are External Interrupt (EI) pins.; Published: 26-May-2004; DatasheetDocument: rev2.5, Apr-2003; PackageDocument: Oct-2003; PackageReference: PSDIP42; Publisher: Altium Limited
footprint PSDIP42 (DIP, Plastic Shrink; 42 Leads; Row Spacing 15.24 mm; Pitch 1.78 mm)
pins: 1 PB4 (io), 2 PD0/AIN0 (io), 3 PD1/AIN1 (io), 4 PD2/AIN2 (io), 5 PD3/AIN3 (io), 6 PD4/AIN4 (io), 7 PD5/AIN5 (io), 8 VDDA (power), 9 VSSA (power), 10 PF0/MCO (io), 11 PF1/BEEP (io), 12 PF2 (io), 13 PF4/OCMP1_A (io), 14 PF6 (HS)/ICAP1_A (io), 15 PF7 (HS)/EXTCLK_A (io), 16 PC0/OCMP2_B (io), 17 PC1/OCMP1_B (io), 18 PC2 (HS)/ICAP2_B (io), 19 PC3 (HS)/ICAP1_B (io), 20 PC4/MISO/ISPDATA (io), 21 PC5/MOSI (io), 22 PC6/SCK/ISPCLK (io), 23 PC7/~{SS} (io), 24 PA3 (io), 25 VDD_1 (power), 26 VSS_1 (power), 27 PA4 (HS) (io), 28 PA5 (HS) (io), 29 PA6 (HS) (io), 30 PA7 (HS) (io), 31 ISPSEL (in), 32 ~{RESET} (io), 33 VSS_2 (power), 34 OSC2 (out), 35 OSC1 (in), 36 VDD_2 (power), 37 PE0/TDO (io), 38 PE1/RDI (io), 39 PB0 (io), 40 PB1 (io), 41 PB2 (io), 42 PB3 (io)

## ST72124J2B6
designator U?
8-Bit MCU with 8k ROM, 384b RAM, 16-Bit Timers, SPI and SCI Interface, 42-Pin PDIP, Industrial; Note: Pins 1, 10-12, 24 and 39-42 are External Interrupt (EI) pins.; Published: 26-May-2004; DatasheetDocument: rev2.5, Apr-2003; PackageDocument: Oct-2003; PackageReference: PSDIP42; Publisher: Altium Limited
footprint PSDIP42 (DIP, Plastic Shrink; 42 Leads; Row Spacing 15.24 mm; Pitch 1.78 mm)
pins: 1 PB4 (io), 2 PD0/AIN0 (io), 3 PD1/AIN1 (io), 4 PD2/AIN2 (io), 5 PD3/AIN3 (io), 6 PD4/AIN4 (io), 7 PD5/AIN5 (io), 8 VDDA (power), 9 VSSA (power), 10 PF0/MCO (io), 11 PF1/BEEP (io), 12 PF2 (io), 13 PF4/OCMP1_A (io), 14 PF6 (HS)/ICAP1_A (io), 15 PF7 (HS)/EXTCLK_A (io), 16 PC0/OCMP2_B (io), 17 PC1/OCMP1_B (io), 18 PC2 (HS)/ICAP2_B (io), 19 PC3 (HS)/ICAP1_B (io), 20 PC4/MISO/ISPDATA (io), 21 PC5/MOSI (io), 22 PC6/SCK/ISPCLK (io), 23 PC7/~{SS} (io), 24 PA3 (io), 25 VDD_1 (power), 26 VSS_1 (power), 27 PA4 (HS) (io), 28 PA5 (HS) (io), 29 PA6 (HS) (io), 30 PA7 (HS) (io), 31 ISPSEL (in), 32 ~{RESET} (io), 33 VSS_2 (power), 34 OSC2 (out), 35 OSC1 (in), 36 VDD_2 (power), 37 PE0/TDO (io), 38 PE1/RDI (io), 39 PB0 (io), 40 PB1 (io), 41 PB2 (io), 42 PB3 (io)

## ST72124J4T1
designator U?
8-Bit MCU with 8k ROM, 384b RAM, 16-Bit Timers, SPI and SCI Interface, 44-Pin TQFP, Standard; Note: Pins 2-6, 15-17 and 31 are External Interrupt (EI) pins.; Published: 26-May-2004; DatasheetDocument: rev2.5, Apr-2003; PackageDocument: Oct-2003; PackageReference: TQFP44; Publisher: Altium Limited
footprint TQFP44 (QFP, Plastic, Thin; 44 Leads; Body 10 x 10 mm; Pitch 0.8 mm)
pins: 1 PE1/RDI (io), 2 PB0 (io), 3 PB1 (io), 4 PB2 (io), 5 PB3 (io), 6 PB4 (io), 7 PD0/AIN0 (io), 8 PD1/AIN1 (io), 9 PD2/AIN2 (io), 10 PD3/AIN3 (io), 11 PD4/AIN4 (io), 12 PD5/AIN5 (io), 13 VDDA (power), 14 VSSA (power), 15 PF0/MCO (io), 16 PF1/BEEP (io), 17 PF2 (io), 18 PF4/OCMP1_A (io), 19 PF6 (HS)/ICAP1_A (io), 20 PF7 (HS)/EXTCLK_A (io), 21 VDD_0 (power), 22 VSS_0 (power), 23 PC0/OCMP2_B (io), 24 PC1/OCMP1_B (io), 25 PC2 (HS)/ICAP2_B (io), 26 PC3 (HS)/ICAP1_B (io), 27 PC4/MISO/ISPDATA (io), 28 PC5/MOSI (io), 29 PC6/SCK/ISPCLK (io), 30 PC7/~{SS} (io), 31 PA3 (io), 32 VDD_1 (power), 33 VSS_1 (power), 34 PA4 (HS) (io), 35 PA5 (HS) (io), 36 PA6 (HS) (io), 37 PA7 (HS) (io), 38 ISPSEL (in), 39 ~{RESET} (io), 40 VSS_2 (power), 41 OSC2 (out), 42 OSC1 (in), 43 VDD_2 (power), 44 PE0/TDO (io)

## ST72124J4T6
designator U?
8-Bit MCU with 8k ROM, 384b RAM, 16-Bit Timers, SPI and SCI Interface, 44-Pin TQFP, Industrial; Note: Pins 2-6, 15-17 and 31 are External Interrupt (EI) pins.; Published: 26-May-2004; DatasheetDocument: rev2.5, Apr-2003; PackageDocument: Oct-2003; PackageReference: TQFP44; Publisher: Altium Limited
footprint TQFP44 (QFP, Plastic, Thin; 44 Leads; Body 10 x 10 mm; Pitch 0.8 mm)
pins: 1 PE1/RDI (io), 2 PB0 (io), 3 PB1 (io), 4 PB2 (io), 5 PB3 (io), 6 PB4 (io), 7 PD0/AIN0 (io), 8 PD1/AIN1 (io), 9 PD2/AIN2 (io), 10 PD3/AIN3 (io), 11 PD4/AIN4 (io), 12 PD5/AIN5 (io), 13 VDDA (power), 14 VSSA (power), 15 PF0/MCO (io), 16 PF1/BEEP (io), 17 PF2 (io), 18 PF4/OCMP1_A (io), 19 PF6 (HS)/ICAP1_A (io), 20 PF7 (HS)/EXTCLK_A (io), 21 VDD_0 (power), 22 VSS_0 (power), 23 PC0/OCMP2_B (io), 24 PC1/OCMP1_B (io), 25 PC2 (HS)/ICAP2_B (io), 26 PC3 (HS)/ICAP1_B (io), 27 PC4/MISO/ISPDATA (io), 28 PC5/MOSI (io), 29 PC6/SCK/ISPCLK (io), 30 PC7/~{SS} (io), 31 PA3 (io), 32 VDD_1 (power), 33 VSS_1 (power), 34 PA4 (HS) (io), 35 PA5 (HS) (io), 36 PA6 (HS) (io), 37 PA7 (HS) (io), 38 ISPSEL (in), 39 ~{RESET} (io), 40 VSS_2 (power), 41 OSC2 (out), 42 OSC1 (in), 43 VDD_2 (power), 44 PE0/TDO (io)